# Altium integrated library con-molex-micro-fit-3_0.IntLib: 194 symbols
Pins are listed as number, name and electrical type; pins without a type are passive.

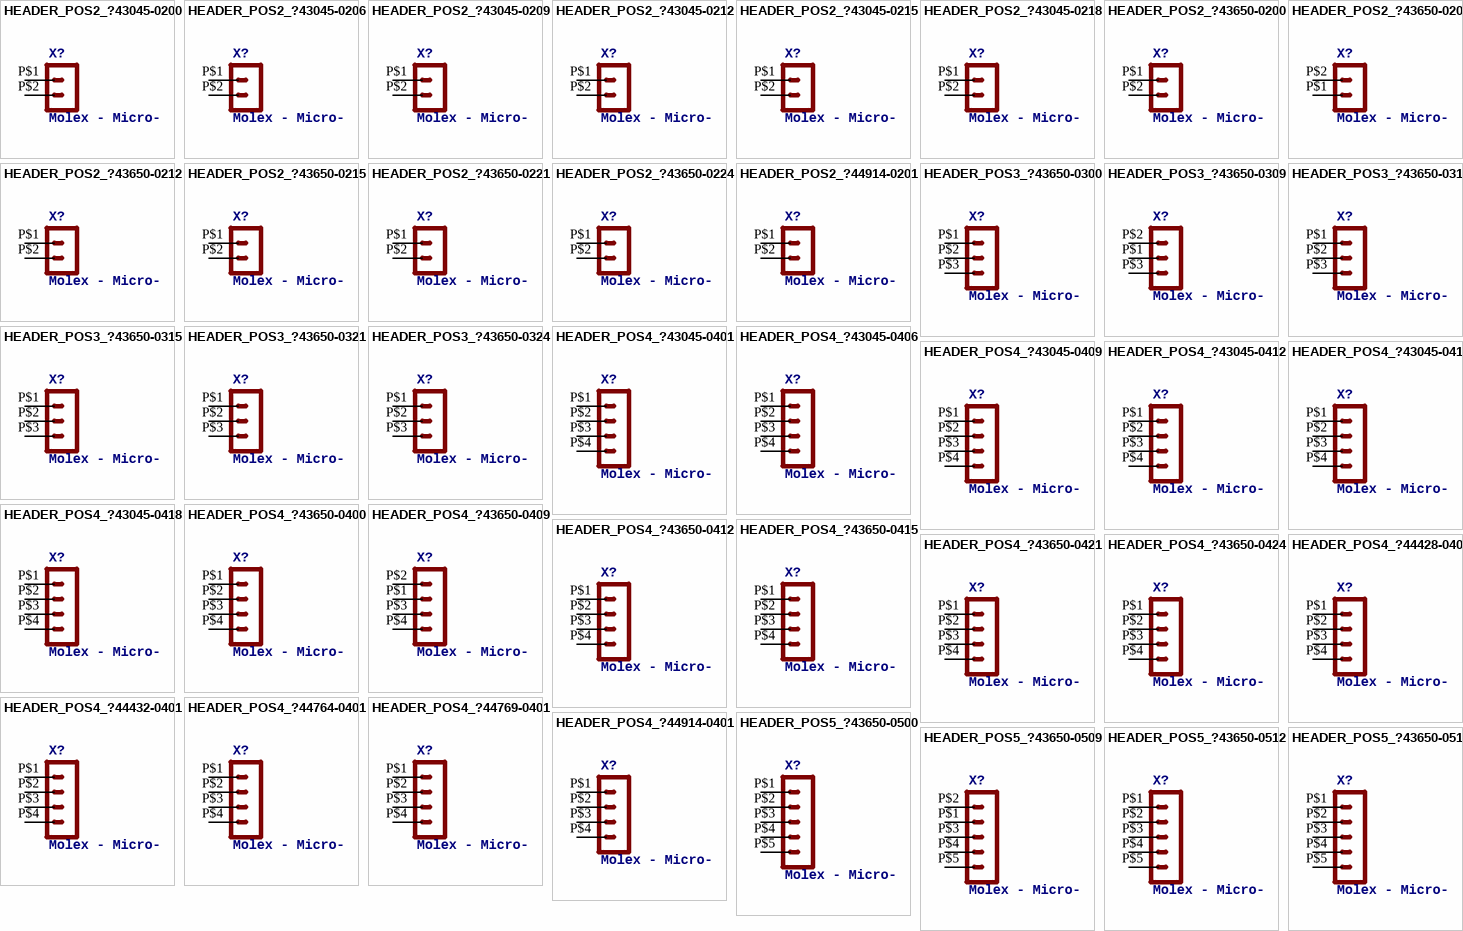
[diagram p0: symbols HEADER_POS2_?43045-0200 to HEADER_POS5_?43650-0515]

## HEADER_POS2_?43045-0200
designator X?, comment Molex - Micro-Fit 3.0 Series connector,  3.00mm (0.118") pitch header, 2 positions.
footprint 43045-0200
pins: P$1 1, P$2 2

## HEADER_POS2_?43045-0206
designator X?, comment Molex - Micro-Fit 3.0 Series connector,  3.00mm (0.118") pitch header, 2 positions.
footprint 43045-0206
pins: P$1 1, P$2 2

## HEADER_POS2_?43045-0209
designator X?, comment Molex - Micro-Fit 3.0 Series connector,  3.00mm (0.118") pitch header, 2 positions.
footprint 43045-0209
pins: P$1 1, P$2 2

## HEADER_POS2_?43045-0212
designator X?, comment Molex - Micro-Fit 3.0 Series connector,  3.00mm (0.118") pitch header, 2 positions.
footprint 43045-0212
pins: P$1 1, P$2 2

## HEADER_POS2_?43045-0215
designator X?, comment Molex - Micro-Fit 3.0 Series connector,  3.00mm (0.118") pitch header, 2 positions.
footprint 43045-0215
pins: P$1 1, P$2 2

## HEADER_POS2_?43045-0218
designator X?, comment Molex - Micro-Fit 3.0 Series connector,  3.00mm (0.118") pitch header, 2 positions.
footprint 43045-0218
pins: P$1 1, P$2 2

## HEADER_POS2_?43650-0200
designator X?, comment Molex - Micro-Fit 3.0 Series connector,  3.00mm (0.118") pitch header, 2 positions.
footprint 43650-0200
pins: P$1 1, P$2 2

## HEADER_POS2_?43650-0209
designator X?, comment Molex - Micro-Fit 3.0 Series connector,  3.00mm (0.118") pitch header, 2 positions.
footprint 43650-0209
pins: P$1 2, P$2 1

## HEADER_POS2_?43650-0212
designator X?, comment Molex - Micro-Fit 3.0 Series connector,  3.00mm (0.118") pitch header, 2 positions.
footprint 43650-0212
pins: P$1 1, P$2 2

## HEADER_POS2_?43650-0215
designator X?, comment Molex - Micro-Fit 3.0 Series connector,  3.00mm (0.118") pitch header, 2 positions.
footprint 43650-0215
pins: P$1 1, P$2 2

## HEADER_POS2_?43650-0221
designator X?, comment Molex - Micro-Fit 3.0 Series connector,  3.00mm (0.118") pitch header, 2 positions.
footprint 43650-0221
pins: P$1 1, P$2 2

## HEADER_POS2_?43650-0224
designator X?, comment Molex - Micro-Fit 3.0 Series connector,  3.00mm (0.118") pitch header, 2 positions.
footprint 43650-0224
pins: P$1 1, P$2 2

## HEADER_POS2_?44914-0201
designator X?, comment Molex - Micro-Fit 3.0 Series connector,  3.00mm (0.118") pitch header, 2 positions.
footprint 44914-0201
pins: P$1 1, P$2 2

## HEADER_POS3_?43650-0300
designator X?, comment Molex - Micro-Fit 3.0 Series connector,  3.00mm (0.118") pitch header, 3 positions.
footprint 43650-0300
pins: P$1 1, P$2 2, P$3 3

## HEADER_POS3_?43650-0309
designator X?, comment Molex - Micro-Fit 3.0 Series connector,  3.00mm (0.118") pitch header, 3 positions.
footprint 43650-0309
pins: P$1 2, P$2 1, P$3 3

## HEADER_POS3_?43650-0312
designator X?, comment Molex - Micro-Fit 3.0 Series connector,  3.00mm (0.118") pitch header, 3 positions.
footprint 43650-0312
pins: P$1 1, P$2 2, P$3 3

## HEADER_POS3_?43650-0315
designator X?, comment Molex - Micro-Fit 3.0 Series connector,  3.00mm (0.118") pitch header, 3 positions.
footprint 43650-0315
pins: P$1 1, P$2 2, P$3 3

## HEADER_POS3_?43650-0321
designator X?, comment Molex - Micro-Fit 3.0 Series connector,  3.00mm (0.118") pitch header, 3 positions.
footprint 43650-0321
pins: P$1 1, P$2 2, P$3 3

## HEADER_POS3_?43650-0324
designator X?, comment Molex - Micro-Fit 3.0 Series connector,  3.00mm (0.118") pitch header, 3 positions.
footprint 43650-0324
pins: P$1 1, P$2 2, P$3 3

## HEADER_POS4_?43045-0401
designator X?, comment Molex - Micro-Fit 3.0 Series connector,  3.00mm (0.118") pitch header, 4 positions.
footprint 43045-0400
pins: P$1 1, P$2 2, P$3 3, P$4 4

## HEADER_POS4_?43045-0406
designator X?, comment Molex - Micro-Fit 3.0 Series connector,  3.00mm (0.118") pitch header, 4 positions.
footprint 43045-0406
pins: P$1 1, P$2 2, P$3 3, P$4 4

## HEADER_POS4_?43045-0409
designator X?, comment Molex - Micro-Fit 3.0 Series connector,  3.00mm (0.118") pitch header, 4 positions.
footprint 43045-0409
pins: P$1 1, P$2 2, P$3 3, P$4 4

## HEADER_POS4_?43045-0412
designator X?, comment Molex - Micro-Fit 3.0 Series connector,  3.00mm (0.118") pitch header, 4 positions.
footprint 43045-0412
pins: P$1 1, P$2 2, P$3 3, P$4 4

## HEADER_POS4_?43045-0415
designator X?, comment Molex - Micro-Fit 3.0 Series connector,  3.00mm (0.118") pitch header, 4 positions.
footprint 43045-0415
pins: P$1 1, P$2 2, P$3 3, P$4 4

## HEADER_POS4_?43045-0418
designator X?, comment Molex - Micro-Fit 3.0 Series connector,  3.00mm (0.118") pitch header, 4 positions.
footprint 43045-0418
pins: P$1 1, P$2 2, P$3 3, P$4 4

## HEADER_POS4_?43650-0400
designator X?, comment Molex - Micro-Fit 3.0 Series connector,  3.00mm (0.118") pitch header, 4 positions.
footprint 43650-0400
pins: P$1 1, P$2 2, P$3 3, P$4 4

## HEADER_POS4_?43650-0409
designator X?, comment Molex - Micro-Fit 3.0 Series connector,  3.00mm (0.118") pitch header, 4 positions.
footprint 43650-0409
pins: P$1 2, P$2 1, P$3 3, P$4 4

## HEADER_POS4_?43650-0412
designator X?, comment Molex - Micro-Fit 3.0 Series connector,  3.00mm (0.118") pitch header, 4 positions.
footprint 43650-0412
pins: P$1 1, P$2 2, P$3 3, P$4 4

## HEADER_POS4_?43650-0415
designator X?, comment Molex - Micro-Fit 3.0 Series connector,  3.00mm (0.118") pitch header, 4 positions.
footprint 43650-0415
pins: P$1 1, P$2 2, P$3 3, P$4 4

## HEADER_POS4_?43650-0421
designator X?, comment Molex - Micro-Fit 3.0 Series connector,  3.00mm (0.118") pitch header, 4 positions.
footprint 43650-0421
pins: P$1 1, P$2 2, P$3 3, P$4 4

## HEADER_POS4_?43650-0424
designator X?, comment Molex - Micro-Fit 3.0 Series connector,  3.00mm (0.118") pitch header, 4 positions.
footprint 43650-0424
pins: P$1 1, P$2 2, P$3 3, P$4 4

## HEADER_POS4_?44428-0401
designator X?, comment Molex - Micro-Fit 3.0 Series connector,  3.00mm (0.118") pitch header, 4 positions.
footprint 44428-0401
pins: P$1 1, P$2 2, P$3 3, P$4 4

## HEADER_POS4_?44432-0401
designator X?, comment Molex - Micro-Fit 3.0 Series connector,  3.00mm (0.118") pitch header, 4 positions.
footprint 44432-0401
pins: P$1 1, P$2 2, P$3 3, P$4 4

## HEADER_POS4_?44764-0401
designator X?, comment Molex - Micro-Fit 3.0 Series connector,  3.00mm (0.118") pitch header, 4 positions.
footprint 44764-0401
pins: P$1 1, P$2 2, P$3 3, P$4 4

## HEADER_POS4_?44769-0401
designator X?, comment Molex - Micro-Fit 3.0 Series connector,  3.00mm (0.118") pitch header, 4 positions.
footprint 44769-0401
pins: P$1 1, P$2 2, P$3 3, P$4 4

## HEADER_POS4_?44914-0401
designator X?, comment Molex - Micro-Fit 3.0 Series connector,  3.00mm (0.118") pitch header, 4 positions.
footprint 44914-0401
pins: P$1 1, P$2 2, P$3 3, P$4 4

## HEADER_POS5_?43650-0500
designator X?, comment Molex - Micro-Fit 3.0 Series connector,  3.00mm (0.118") pitch header, 5 positions.
footprint 43650-0500
pins: P$1 1, P$2 2, P$3 3, P$4 4, P$5 5

## HEADER_POS5_?43650-0509
designator X?, comment Molex - Micro-Fit 3.0 Series connector,  3.00mm (0.118") pitch header, 5 positions.
footprint 43650-0509
pins: P$1 2, P$2 1, P$3 3, P$4 4, P$5 5

## HEADER_POS5_?43650-0512
designator X?, comment Molex - Micro-Fit 3.0 Series connector,  3.00mm (0.118") pitch header, 5 positions.
footprint 43650-0512
pins: P$1 1, P$2 2, P$3 3, P$4 4, P$5 5

## HEADER_POS5_?43650-0515
designator X?, comment Molex - Micro-Fit 3.0 Series connector,  3.00mm (0.118") pitch header, 5 positions.
footprint 43650-0515
pins: P$1 1, P$2 2, P$3 3, P$4 4, P$5 5

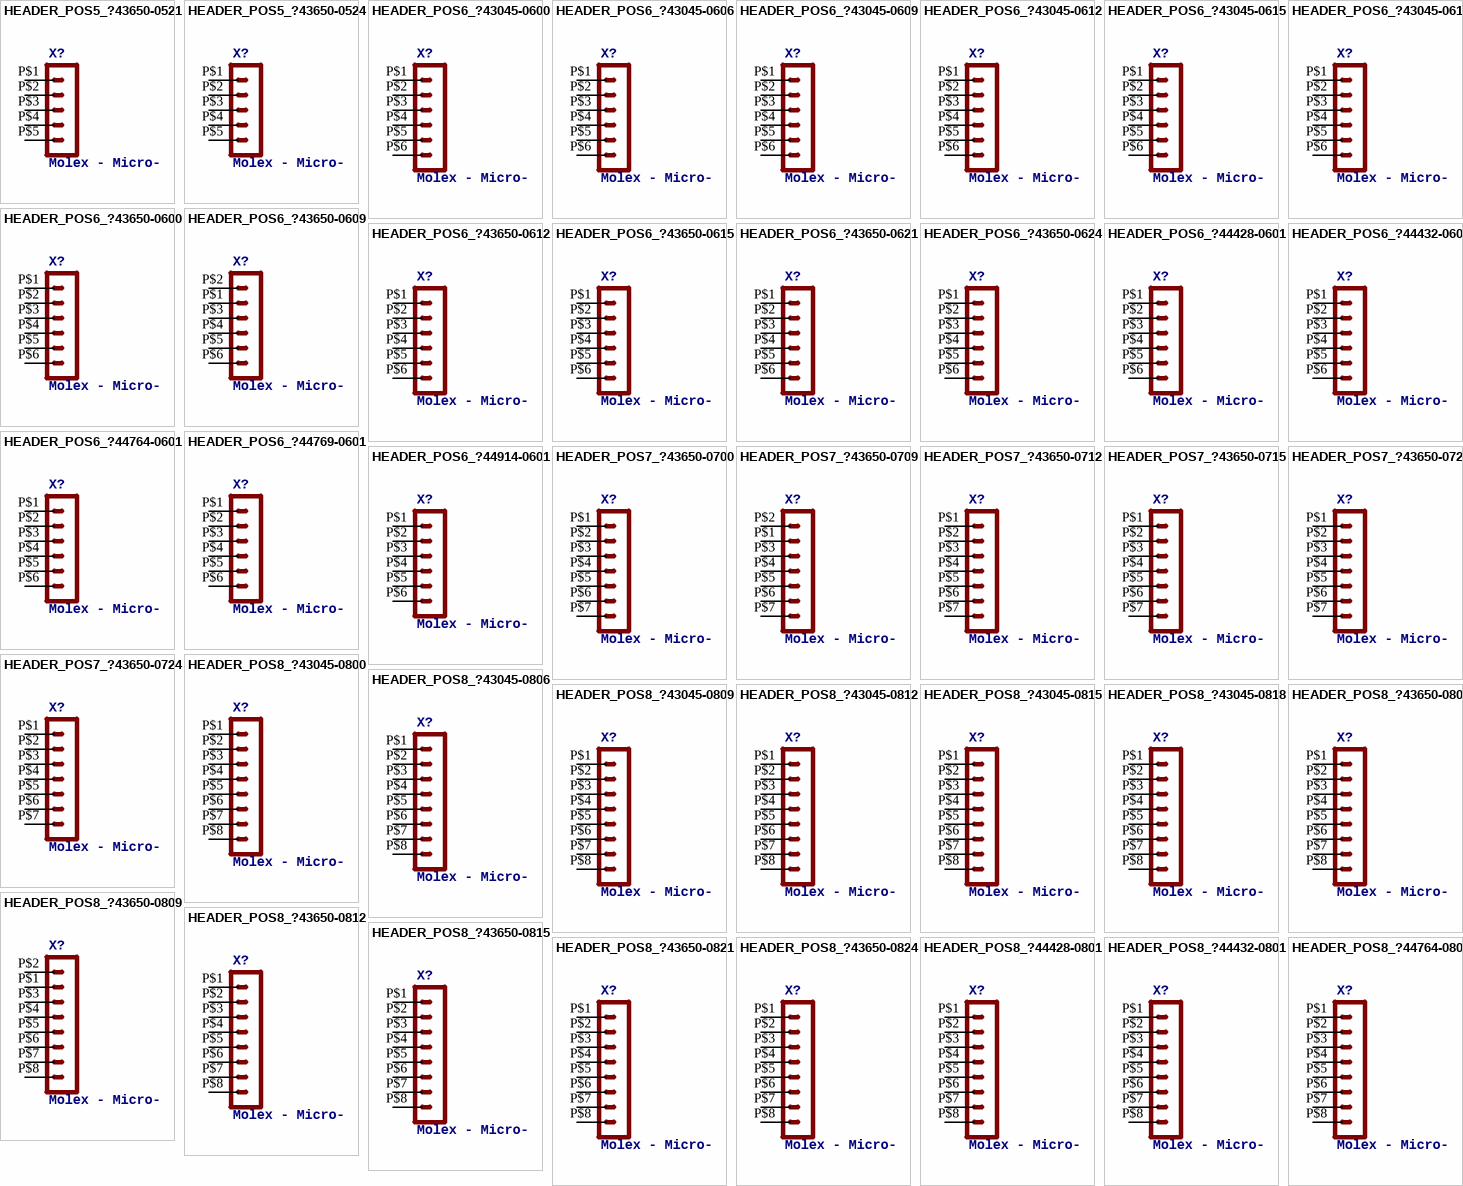
[diagram p1: symbols HEADER_POS5_?43650-0521 to HEADER_POS8_?44764-0801]

## HEADER_POS5_?43650-0521
designator X?, comment Molex - Micro-Fit 3.0 Series connector,  3.00mm (0.118") pitch header, 5 positions.
footprint 43650-0521
pins: P$1 1, P$2 2, P$3 3, P$4 4, P$5 5

## HEADER_POS5_?43650-0524
designator X?, comment Molex - Micro-Fit 3.0 Series connector,  3.00mm (0.118") pitch header, 5 positions.
footprint 43650-0524
pins: P$1 1, P$2 2, P$3 3, P$4 4, P$5 5

## HEADER_POS6_?43045-0600
designator X?, comment Molex - Micro-Fit 3.0 Series connector,  3.00mm (0.118") pitch header, 6 positions.
footprint 43045-0600
pins: P$1 1, P$2 2, P$3 3, P$4 4, P$5 5, P$6 6

## HEADER_POS6_?43045-0606
designator X?, comment Molex - Micro-Fit 3.0 Series connector,  3.00mm (0.118") pitch header, 6 positions.
footprint 43045-0606
pins: P$1 1, P$2 2, P$3 3, P$4 4, P$5 5, P$6 6

## HEADER_POS6_?43045-0609
designator X?, comment Molex - Micro-Fit 3.0 Series connector,  3.00mm (0.118") pitch header, 6 positions.
footprint 43045-0609
pins: P$1 1, P$2 2, P$3 3, P$4 4, P$5 5, P$6 6

## HEADER_POS6_?43045-0612
designator X?, comment Molex - Micro-Fit 3.0 Series connector,  3.00mm (0.118") pitch header, 6 positions.
footprint 43045-0612
pins: P$1 1, P$2 2, P$3 3, P$4 4, P$5 5, P$6 6

## HEADER_POS6_?43045-0615
designator X?, comment Molex - Micro-Fit 3.0 Series connector,  3.00mm (0.118") pitch header, 6 positions.
footprint 43045-0615
pins: P$1 1, P$2 2, P$3 3, P$4 4, P$5 5, P$6 6

## HEADER_POS6_?43045-0618
designator X?, comment Molex - Micro-Fit 3.0 Series connector,  3.00mm (0.118") pitch header, 6 positions.
footprint 43045-0618
pins: P$1 1, P$2 2, P$3 3, P$4 4, P$5 5, P$6 6

## HEADER_POS6_?43650-0600
designator X?, comment Molex - Micro-Fit 3.0 Series connector,  3.00mm (0.118") pitch header, 6 positions.
footprint 43650-0600
pins: P$1 1, P$2 2, P$3 3, P$4 4, P$5 5, P$6 6

## HEADER_POS6_?43650-0609
designator X?, comment Molex - Micro-Fit 3.0 Series connector,  3.00mm (0.118") pitch header, 6 positions.
footprint 43650-0609
pins: P$1 2, P$2 1, P$3 3, P$4 4, P$5 5, P$6 6

## HEADER_POS6_?43650-0612
designator X?, comment Molex - Micro-Fit 3.0 Series connector,  3.00mm (0.118") pitch header, 6 positions.
footprint 43650-0612
pins: P$1 1, P$2 2, P$3 3, P$4 4, P$5 5, P$6 6

## HEADER_POS6_?43650-0615
designator X?, comment Molex - Micro-Fit 3.0 Series connector,  3.00mm (0.118") pitch header, 6 positions.
footprint 43650-0615
pins: P$1 1, P$2 2, P$3 3, P$4 4, P$5 5, P$6 6

## HEADER_POS6_?43650-0621
designator X?, comment Molex - Micro-Fit 3.0 Series connector,  3.00mm (0.118") pitch header, 6 positions.
footprint 43650-0621
pins: P$1 1, P$2 2, P$3 3, P$4 4, P$5 5, P$6 6

## HEADER_POS6_?43650-0624
designator X?, comment Molex - Micro-Fit 3.0 Series connector,  3.00mm (0.118") pitch header, 6 positions.
footprint 43650-0624
pins: P$1 1, P$2 2, P$3 3, P$4 4, P$5 5, P$6 6

## HEADER_POS6_?44428-0601
designator X?, comment Molex - Micro-Fit 3.0 Series connector,  3.00mm (0.118") pitch header, 6 positions.
footprint 44428-0601
pins: P$1 1, P$2 2, P$3 3, P$4 4, P$5 5, P$6 6

## HEADER_POS6_?44432-0601
designator X?, comment Molex - Micro-Fit 3.0 Series connector,  3.00mm (0.118") pitch header, 6 positions.
footprint 44432-0601
pins: P$1 1, P$2 2, P$3 3, P$4 4, P$5 5, P$6 6

## HEADER_POS6_?44764-0601
designator X?, comment Molex - Micro-Fit 3.0 Series connector,  3.00mm (0.118") pitch header, 6 positions.
footprint 44764-0601
pins: P$1 1, P$2 2, P$3 3, P$4 4, P$5 5, P$6 6

## HEADER_POS6_?44769-0601
designator X?, comment Molex - Micro-Fit 3.0 Series connector,  3.00mm (0.118") pitch header, 6 positions.
footprint 44769-0601
pins: P$1 1, P$2 2, P$3 3, P$4 4, P$5 5, P$6 6

## HEADER_POS6_?44914-0601
designator X?, comment Molex - Micro-Fit 3.0 Series connector,  3.00mm (0.118") pitch header, 6 positions.
footprint 44914-0601
pins: P$1 1, P$2 2, P$3 3, P$4 4, P$5 5, P$6 6

## HEADER_POS7_?43650-0700
designator X?, comment Molex - Micro-Fit 3.0 Series connector,  3.00mm (0.118") pitch header, 7 positions.
footprint 43650-0700
pins: P$1 1, P$2 2, P$3 3, P$4 4, P$5 5, P$6 6, P$7 7

## HEADER_POS7_?43650-0709
designator X?, comment Molex - Micro-Fit 3.0 Series connector,  3.00mm (0.118") pitch header, 7 positions.
footprint 43650-0709
pins: P$1 2, P$2 1, P$3 3, P$4 4, P$5 5, P$6 6, P$7 7

## HEADER_POS7_?43650-0712
designator X?, comment Molex - Micro-Fit 3.0 Series connector,  3.00mm (0.118") pitch header, 7 positions.
footprint 43650-0712
pins: P$1 1, P$2 2, P$3 3, P$4 4, P$5 5, P$6 6, P$7 7

## HEADER_POS7_?43650-0715
designator X?, comment Molex - Micro-Fit 3.0 Series connector,  3.00mm (0.118") pitch header, 7 positions.
footprint 43650-0715
pins: P$1 1, P$2 2, P$3 3, P$4 4, P$5 5, P$6 6, P$7 7

## HEADER_POS7_?43650-0721
designator X?, comment Molex - Micro-Fit 3.0 Series connector,  3.00mm (0.118") pitch header, 7 positions.
footprint 43650-0721
pins: P$1 1, P$2 2, P$3 3, P$4 4, P$5 5, P$6 6, P$7 7

## HEADER_POS7_?43650-0724
designator X?, comment Molex - Micro-Fit 3.0 Series connector,  3.00mm (0.118") pitch header, 7 positions.
footprint 43650-0724
pins: P$1 1, P$2 2, P$3 3, P$4 4, P$5 5, P$6 6, P$7 7

## HEADER_POS8_?43045-0800
designator X?, comment Molex - Micro-Fit 3.0 Series connector,  3.00mm (0.118") pitch header, 8 positions.
footprint 43045-0800
pins: P$1 1, P$2 2, P$3 3, P$4 4, P$5 5, P$6 6, P$7 7, P$8 8

## HEADER_POS8_?43045-0806
designator X?, comment Molex - Micro-Fit 3.0 Series connector,  3.00mm (0.118") pitch header, 8 positions.
footprint 43045-0806
pins: P$1 1, P$2 2, P$3 3, P$4 4, P$5 5, P$6 6, P$7 7, P$8 8

## HEADER_POS8_?43045-0809
designator X?, comment Molex - Micro-Fit 3.0 Series connector,  3.00mm (0.118") pitch header, 8 positions.
footprint 43045-0809
pins: P$1 1, P$2 2, P$3 3, P$4 4, P$5 5, P$6 6, P$7 7, P$8 8

## HEADER_POS8_?43045-0812
designator X?, comment Molex - Micro-Fit 3.0 Series connector,  3.00mm (0.118") pitch header, 8 positions.
footprint 43045-0812
pins: P$1 1, P$2 2, P$3 3, P$4 4, P$5 5, P$6 6, P$7 7, P$8 8

## HEADER_POS8_?43045-0815
designator X?, comment Molex - Micro-Fit 3.0 Series connector,  3.00mm (0.118") pitch header, 8 positions.
footprint 43045-0815
pins: P$1 1, P$2 2, P$3 3, P$4 4, P$5 5, P$6 6, P$7 7, P$8 8

## HEADER_POS8_?43045-0818
designator X?, comment Molex - Micro-Fit 3.0 Series connector,  3.00mm (0.118") pitch header, 8 positions.
footprint 43045-0818
pins: P$1 1, P$2 2, P$3 3, P$4 4, P$5 5, P$6 6, P$7 7, P$8 8

## HEADER_POS8_?43650-0800
designator X?, comment Molex - Micro-Fit 3.0 Series connector,  3.00mm (0.118") pitch header, 8 positions.
footprint 43650-0800
pins: P$1 1, P$2 2, P$3 3, P$4 4, P$5 5, P$6 6, P$7 7, P$8 8

## HEADER_POS8_?43650-0809
designator X?, comment Molex - Micro-Fit 3.0 Series connector,  3.00mm (0.118") pitch header, 8 positions.
footprint 43650-0809
pins: P$1 2, P$2 1, P$3 3, P$4 4, P$5 5, P$6 6, P$7 7, P$8 8

## HEADER_POS8_?43650-0812
designator X?, comment Molex - Micro-Fit 3.0 Series connector,  3.00mm (0.118") pitch header, 8 positions.
footprint 43650-0812
pins: P$1 1, P$2 2, P$3 3, P$4 4, P$5 5, P$6 6, P$7 7, P$8 8

## HEADER_POS8_?43650-0815
designator X?, comment Molex - Micro-Fit 3.0 Series connector,  3.00mm (0.118") pitch header, 8 positions.
footprint 43650-0815
pins: P$1 1, P$2 2, P$3 3, P$4 4, P$5 5, P$6 6, P$7 7, P$8 8

## HEADER_POS8_?43650-0821
designator X?, comment Molex - Micro-Fit 3.0 Series connector,  3.00mm (0.118") pitch header, 8 positions.
footprint 43650-0821
pins: P$1 1, P$2 2, P$3 3, P$4 4, P$5 5, P$6 6, P$7 7, P$8 8

## HEADER_POS8_?43650-0824
designator X?, comment Molex - Micro-Fit 3.0 Series connector,  3.00mm (0.118") pitch header, 8 positions.
footprint 43650-0824
pins: P$1 1, P$2 2, P$3 3, P$4 4, P$5 5, P$6 6, P$7 7, P$8 8

## HEADER_POS8_?44428-0801
designator X?, comment Molex - Micro-Fit 3.0 Series connector,  3.00mm (0.118") pitch header, 8 positions.
footprint 44428-0801
pins: P$1 1, P$2 2, P$3 3, P$4 4, P$5 5, P$6 6, P$7 7, P$8 8

## HEADER_POS8_?44432-0801
designator X?, comment Molex - Micro-Fit 3.0 Series connector,  3.00mm (0.118") pitch header, 8 positions.
footprint 44432-0801
pins: P$1 1, P$2 2, P$3 3, P$4 4, P$5 5, P$6 6, P$7 7, P$8 8

## HEADER_POS8_?44764-0801
designator X?, comment Molex - Micro-Fit 3.0 Series connector,  3.00mm (0.118") pitch header, 8 positions.
footprint 44764-0801
pins: P$1 1, P$2 2, P$3 3, P$4 4, P$5 5, P$6 6, P$7 7, P$8 8

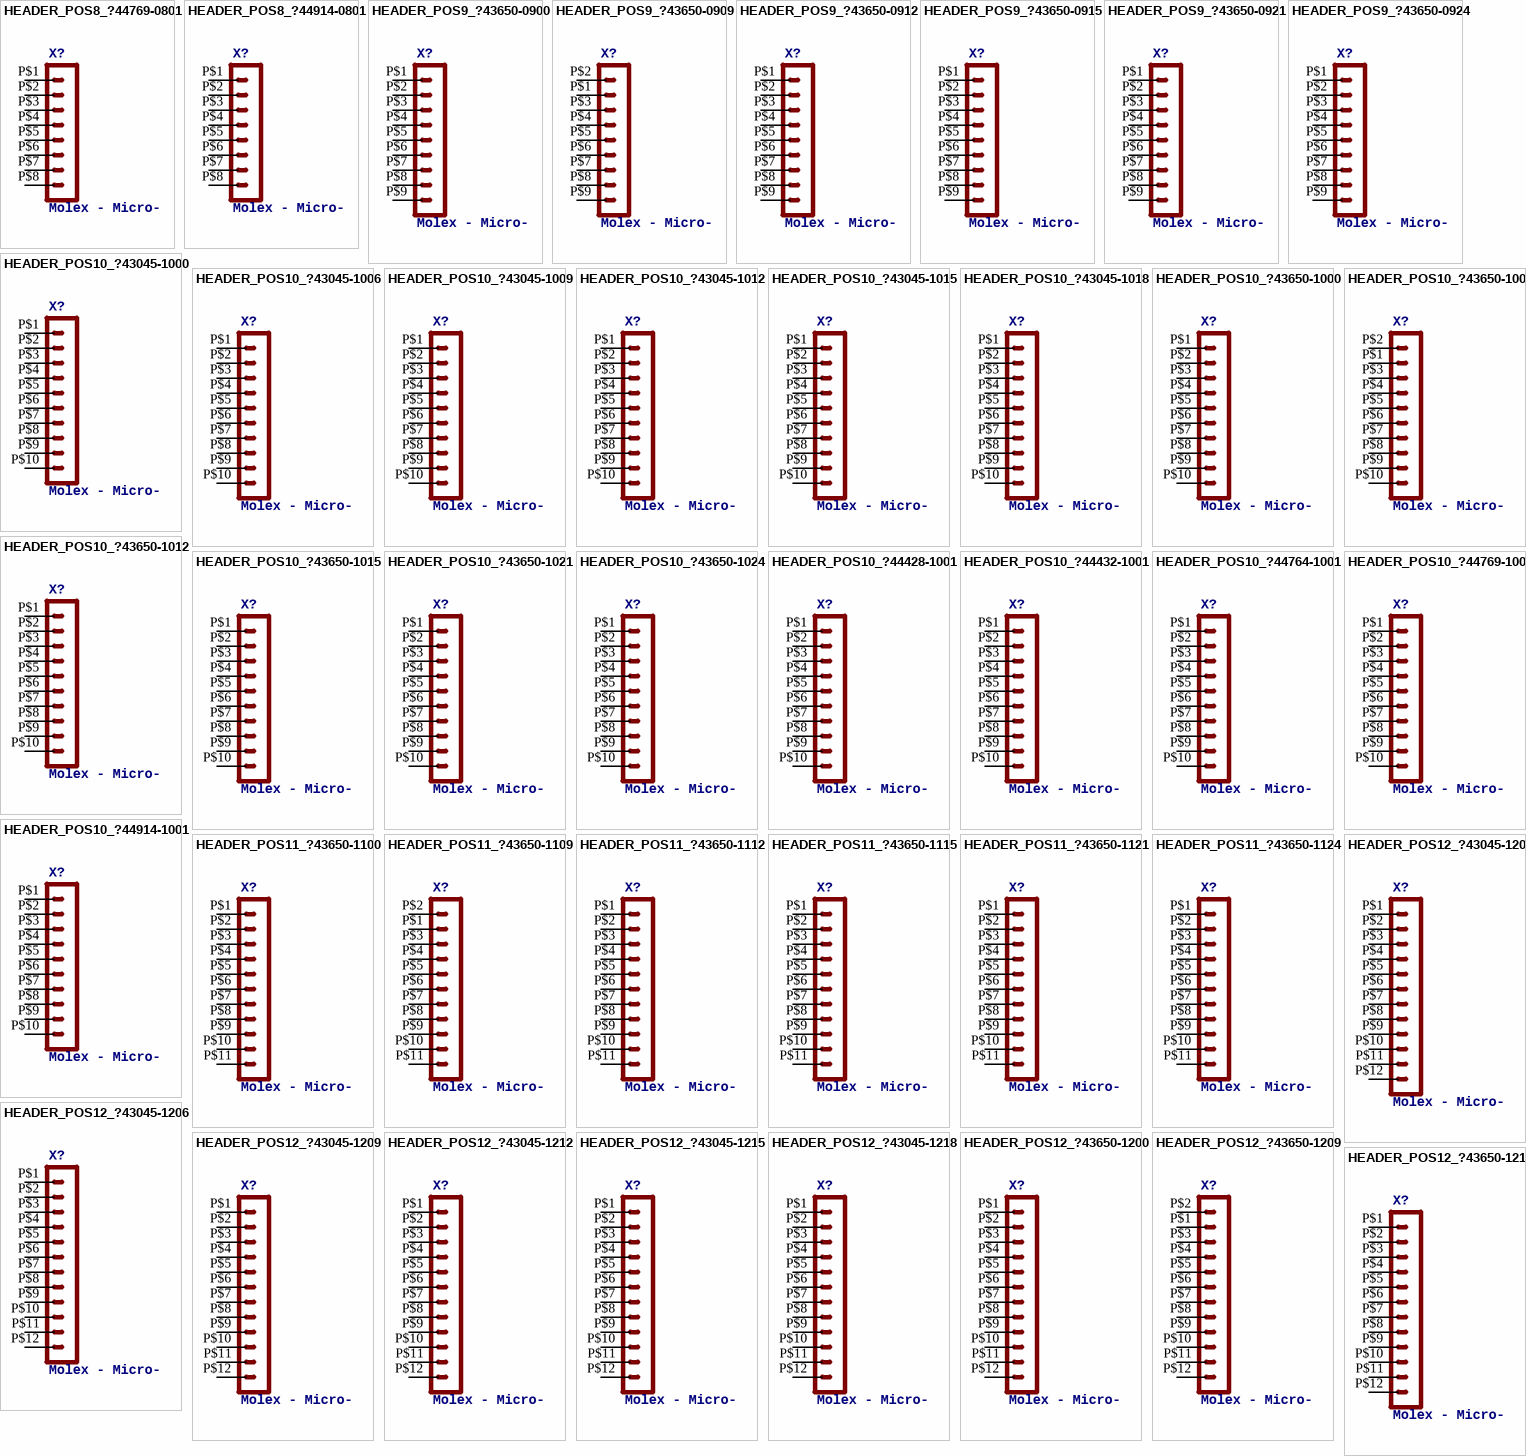
[diagram p2: symbols HEADER_POS8_?44769-0801 to HEADER_POS12_?43650-1212]

## HEADER_POS8_?44769-0801
designator X?, comment Molex - Micro-Fit 3.0 Series connector,  3.00mm (0.118") pitch header, 8 positions.
footprint 44769-0801
pins: P$1 1, P$2 2, P$3 3, P$4 4, P$5 5, P$6 6, P$7 7, P$8 8

## HEADER_POS8_?44914-0801
designator X?, comment Molex - Micro-Fit 3.0 Series connector,  3.00mm (0.118") pitch header, 8 positions.
footprint 44914-0801
pins: P$1 1, P$2 2, P$3 3, P$4 4, P$5 5, P$6 6, P$7 7, P$8 8

## HEADER_POS9_?43650-0900
designator X?, comment Molex - Micro-Fit 3.0 Series connector,  3.00mm (0.118") pitch header, 9 positions.
footprint 43650-0900
pins: P$1 1, P$2 2, P$3 3, P$4 4, P$5 5, P$6 6, P$7 7, P$8 8, P$9 9

## HEADER_POS9_?43650-0909
designator X?, comment Molex - Micro-Fit 3.0 Series connector,  3.00mm (0.118") pitch header, 9 positions.
footprint 43650-0909
pins: P$1 2, P$2 1, P$3 3, P$4 4, P$5 5, P$6 6, P$7 7, P$8 8, P$9 9

## HEADER_POS9_?43650-0912
designator X?, comment Molex - Micro-Fit 3.0 Series connector,  3.00mm (0.118") pitch header, 9 positions.
footprint 43650-0912
pins: P$1 1, P$2 2, P$3 3, P$4 4, P$5 5, P$6 6, P$7 7, P$8 8, P$9 9

## HEADER_POS9_?43650-0915
designator X?, comment Molex - Micro-Fit 3.0 Series connector,  3.00mm (0.118") pitch header, 9 positions.
footprint 43650-0915
pins: P$1 1, P$2 2, P$3 3, P$4 4, P$5 5, P$6 6, P$7 7, P$8 8, P$9 9

## HEADER_POS9_?43650-0921
designator X?, comment Molex - Micro-Fit 3.0 Series connector,  3.00mm (0.118") pitch header, 9 positions.
footprint 43650-0921
pins: P$1 1, P$2 2, P$3 3, P$4 4, P$5 5, P$6 6, P$7 7, P$8 8, P$9 9

## HEADER_POS9_?43650-0924
designator X?, comment Molex - Micro-Fit 3.0 Series connector,  3.00mm (0.118") pitch header, 9 positions.
footprint 43650-0924
pins: P$1 1, P$2 2, P$3 3, P$4 4, P$5 5, P$6 6, P$7 7, P$8 8, P$9 9

## HEADER_POS10_?43045-1000
designator X?, comment Molex - Micro-Fit 3.0 Series connector,  3.00mm (0.118") pitch header, 10 positions.
footprint 43045-1000
pins: P$1 1, P$2 2, P$3 3, P$4 4, P$5 5, P$6 6, P$7 7, P$8 8, P$9 9, P$10 10

## HEADER_POS10_?43045-1006
designator X?, comment Molex - Micro-Fit 3.0 Series connector,  3.00mm (0.118") pitch header, 10 positions.
footprint 43045-1006
pins: P$1 1, P$2 2, P$3 3, P$4 4, P$5 5, P$6 6, P$7 7, P$8 8, P$9 9, P$10 10

## HEADER_POS10_?43045-1009
designator X?, comment Molex - Micro-Fit 3.0 Series connector,  3.00mm (0.118") pitch header, 10 positions.
footprint 43045-1009
pins: P$1 1, P$2 2, P$3 3, P$4 4, P$5 5, P$6 6, P$7 7, P$8 8, P$9 9, P$10 10

## HEADER_POS10_?43045-1012
designator X?, comment Molex - Micro-Fit 3.0 Series connector,  3.00mm (0.118") pitch header, 10 positions.
footprint 43045-1012
pins: P$1 1, P$2 2, P$3 3, P$4 4, P$5 5, P$6 6, P$7 7, P$8 8, P$9 9, P$10 10

## HEADER_POS10_?43045-1015
designator X?, comment Molex - Micro-Fit 3.0 Series connector,  3.00mm (0.118") pitch header, 10 positions.
footprint 43045-1015
pins: P$1 1, P$2 2, P$3 3, P$4 4, P$5 5, P$6 6, P$7 7, P$8 8, P$9 9, P$10 10

## HEADER_POS10_?43045-1018
designator X?, comment Molex - Micro-Fit 3.0 Series connector,  3.00mm (0.118") pitch header, 10 positions.
footprint 43045-1018
pins: P$1 1, P$2 2, P$3 3, P$4 4, P$5 5, P$6 6, P$7 7, P$8 8, P$9 9, P$10 10

## HEADER_POS10_?43650-1000
designator X?, comment Molex - Micro-Fit 3.0 Series connector,  3.00mm (0.118") pitch header, 10 positions.
footprint 43650-1000
pins: P$1 1, P$2 2, P$3 3, P$4 4, P$5 5, P$6 6, P$7 7, P$8 8, P$9 9, P$10 10

## HEADER_POS10_?43650-1009
designator X?, comment Molex - Micro-Fit 3.0 Series connector,  3.00mm (0.118") pitch header, 10 positions.
footprint 43650-1009
pins: P$1 2, P$2 1, P$3 3, P$4 4, P$5 5, P$6 6, P$7 7, P$8 8, P$9 9, P$10 10

## HEADER_POS10_?43650-1012
designator X?, comment Molex - Micro-Fit 3.0 Series connector,  3.00mm (0.118") pitch header, 10 positions.
footprint 43650-1012
pins: P$1 1, P$2 2, P$3 3, P$4 4, P$5 5, P$6 6, P$7 7, P$8 8, P$9 9, P$10 10

## HEADER_POS10_?43650-1015
designator X?, comment Molex - Micro-Fit 3.0 Series connector,  3.00mm (0.118") pitch header, 10 positions.
footprint 43650-1015
pins: P$1 1, P$2 2, P$3 3, P$4 4, P$5 5, P$6 6, P$7 7, P$8 8, P$9 9, P$10 10

## HEADER_POS10_?43650-1021
designator X?, comment Molex - Micro-Fit 3.0 Series connector,  3.00mm (0.118") pitch header, 10 positions.
footprint 43650-1021
pins: P$1 1, P$2 2, P$3 3, P$4 4, P$5 5, P$6 6, P$7 7, P$8 8, P$9 9, P$10 10

## HEADER_POS10_?43650-1024
designator X?, comment Molex - Micro-Fit 3.0 Series connector,  3.00mm (0.118") pitch header, 10 positions.
footprint 43650-1024
pins: P$1 1, P$2 2, P$3 3, P$4 4, P$5 5, P$6 6, P$7 7, P$8 8, P$9 9, P$10 10

## HEADER_POS10_?44428-1001
designator X?, comment Molex - Micro-Fit 3.0 Series connector,  3.00mm (0.118") pitch header, 10 positions.
footprint 44428-1001
pins: P$1 1, P$2 2, P$3 3, P$4 4, P$5 5, P$6 6, P$7 7, P$8 8, P$9 9, P$10 10

## HEADER_POS10_?44432-1001
designator X?, comment Molex - Micro-Fit 3.0 Series connector,  3.00mm (0.118") pitch header, 10 positions.
footprint 44432-1001
pins: P$1 1, P$2 2, P$3 3, P$4 4, P$5 5, P$6 6, P$7 7, P$8 8, P$9 9, P$10 10

## HEADER_POS10_?44764-1001
designator X?, comment Molex - Micro-Fit 3.0 Series connector,  3.00mm (0.118") pitch header, 10 positions.
footprint 44764-1001
pins: P$1 1, P$2 2, P$3 3, P$4 4, P$5 5, P$6 6, P$7 7, P$8 8, P$9 9, P$10 10

## HEADER_POS10_?44769-1001
designator X?, comment Molex - Micro-Fit 3.0 Series connector,  3.00mm (0.118") pitch header, 10 positions.
footprint 44769-1001
pins: P$1 1, P$2 2, P$3 3, P$4 4, P$5 5, P$6 6, P$7 7, P$8 8, P$9 9, P$10 10

## HEADER_POS10_?44914-1001
designator X?, comment Molex - Micro-Fit 3.0 Series connector,  3.00mm (0.118") pitch header, 10 positions.
footprint 44914-1001
pins: P$1 1, P$2 2, P$3 3, P$4 4, P$5 5, P$6 6, P$7 7, P$8 8, P$9 9, P$10 10

## HEADER_POS11_?43650-1100
designator X?, comment Molex - Micro-Fit 3.0 Series connector,  3.00mm (0.118") pitch header, 11 positions.
footprint 43650-1100
pins: P$1 1, P$2 2, P$3 3, P$4 4, P$5 5, P$6 6, P$7 7, P$8 8, P$9 9, P$10 10, P$11 11

## HEADER_POS11_?43650-1109
designator X?, comment Molex - Micro-Fit 3.0 Series connector,  3.00mm (0.118") pitch header, 11 positions.
footprint 43650-1109
pins: P$1 2, P$2 1, P$3 3, P$4 4, P$5 5, P$6 6, P$7 7, P$8 8, P$9 9, P$10 10, P$11 11

## HEADER_POS11_?43650-1112
designator X?, comment Molex - Micro-Fit 3.0 Series connector,  3.00mm (0.118") pitch header, 11 positions.
footprint 43650-1112
pins: P$1 1, P$2 2, P$3 3, P$4 4, P$5 5, P$6 6, P$7 7, P$8 8, P$9 9, P$10 10, P$11 11

## HEADER_POS11_?43650-1115
designator X?, comment Molex - Micro-Fit 3.0 Series connector,  3.00mm (0.118") pitch header, 11 positions.
footprint 43650-1115
pins: P$1 1, P$2 2, P$3 3, P$4 4, P$5 5, P$6 6, P$7 7, P$8 8, P$9 9, P$10 10, P$11 11

## HEADER_POS11_?43650-1121
designator X?, comment Molex - Micro-Fit 3.0 Series connector,  3.00mm (0.118") pitch header, 11 positions.
footprint 43650-1121
pins: P$1 1, P$2 2, P$3 3, P$4 4, P$5 5, P$6 6, P$7 7, P$8 8, P$9 9, P$10 10, P$11 11

## HEADER_POS11_?43650-1124
designator X?, comment Molex - Micro-Fit 3.0 Series connector,  3.00mm (0.118") pitch header, 11 positions.
footprint 43650-1124
pins: P$1 1, P$2 2, P$3 3, P$4 4, P$5 5, P$6 6, P$7 7, P$8 8, P$9 9, P$10 10, P$11 11

## HEADER_POS12_?43045-1200
designator X?, comment Molex - Micro-Fit 3.0 Series connector,  3.00mm (0.118") pitch header, 12 positions.
footprint 43045-1200
pins: P$1 1, P$2 2, P$3 3, P$4 4, P$5 5, P$6 6, P$7 7, P$8 8, P$9 9, P$10 10, P$11 11, P$12 12

## HEADER_POS12_?43045-1206
designator X?, comment Molex - Micro-Fit 3.0 Series connector,  3.00mm (0.118") pitch header, 12 positions.
footprint 43045-1206
pins: P$1 1, P$2 2, P$3 3, P$4 4, P$5 5, P$6 6, P$7 7, P$8 8, P$9 9, P$10 10, P$11 11, P$12 12

## HEADER_POS12_?43045-1209
designator X?, comment Molex - Micro-Fit 3.0 Series connector,  3.00mm (0.118") pitch header, 12 positions.
footprint 43045-1209
pins: P$1 1, P$2 2, P$3 3, P$4 4, P$5 5, P$6 6, P$7 7, P$8 8, P$9 9, P$10 10, P$11 11, P$12 12

## HEADER_POS12_?43045-1212
designator X?, comment Molex - Micro-Fit 3.0 Series connector,  3.00mm (0.118") pitch header, 12 positions.
footprint 43045-1212
pins: P$1 1, P$2 2, P$3 3, P$4 4, P$5 5, P$6 6, P$7 7, P$8 8, P$9 9, P$10 10, P$11 11, P$12 12

## HEADER_POS12_?43045-1215
designator X?, comment Molex - Micro-Fit 3.0 Series connector,  3.00mm (0.118") pitch header, 12 positions.
footprint 43045-1215
pins: P$1 1, P$2 2, P$3 3, P$4 4, P$5 5, P$6 6, P$7 7, P$8 8, P$9 9, P$10 10, P$11 11, P$12 12

## HEADER_POS12_?43045-1218
designator X?, comment Molex - Micro-Fit 3.0 Series connector,  3.00mm (0.118") pitch header, 12 positions.
footprint 43045-1218
pins: P$1 1, P$2 2, P$3 3, P$4 4, P$5 5, P$6 6, P$7 7, P$8 8, P$9 9, P$10 10, P$11 11, P$12 12

## HEADER_POS12_?43650-1200
designator X?, comment Molex - Micro-Fit 3.0 Series connector,  3.00mm (0.118") pitch header, 12 positions.
footprint 43650-1200
pins: P$1 1, P$2 2, P$3 3, P$4 4, P$5 5, P$6 6, P$7 7, P$8 8, P$9 9, P$10 10, P$11 11, P$12 12

## HEADER_POS12_?43650-1209
designator X?, comment Molex - Micro-Fit 3.0 Series connector,  3.00mm (0.118") pitch header, 12 positions.
footprint 43650-1209
pins: P$1 2, P$2 1, P$3 3, P$4 4, P$5 5, P$6 6, P$7 7, P$8 8, P$9 9, P$10 10, P$11 11, P$12 12

## HEADER_POS12_?43650-1212
designator X?, comment Molex - Micro-Fit 3.0 Series connector,  3.00mm (0.118") pitch header, 12 positions.
footprint 43650-1212
pins: P$1 1, P$2 2, P$3 3, P$4 4, P$5 5, P$6 6, P$7 7, P$8 8, P$9 9, P$10 10, P$11 11, P$12 12

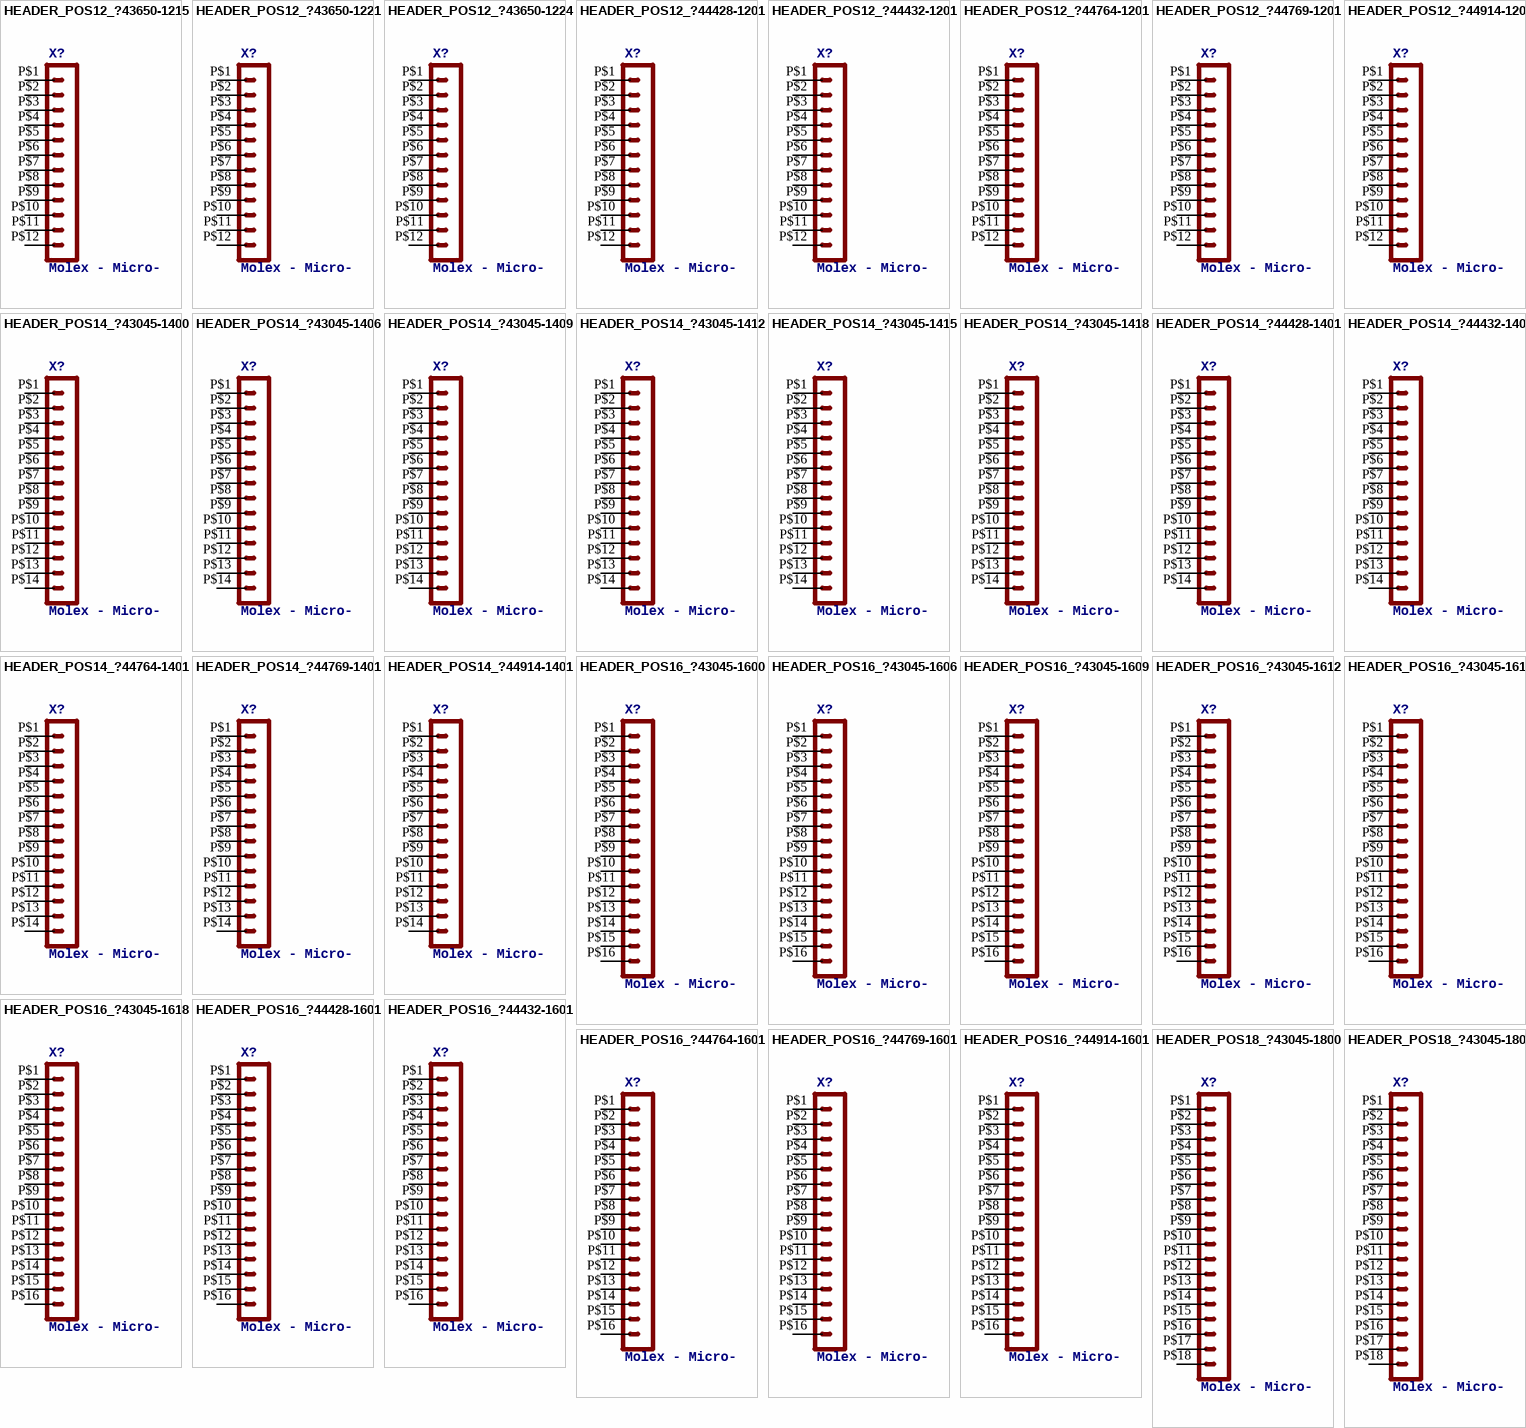
[diagram p3: symbols HEADER_POS12_?43650-1215 to HEADER_POS18_?43045-1806]

## HEADER_POS12_?43650-1215
designator X?, comment Molex - Micro-Fit 3.0 Series connector,  3.00mm (0.118") pitch header, 12 positions.
footprint 43650-1215
pins: P$1 1, P$2 2, P$3 3, P$4 4, P$5 5, P$6 6, P$7 7, P$8 8, P$9 9, P$10 10, P$11 11, P$12 12

## HEADER_POS12_?43650-1221
designator X?, comment Molex - Micro-Fit 3.0 Series connector,  3.00mm (0.118") pitch header, 12 positions.
footprint 43650-1221
pins: P$1 1, P$2 2, P$3 3, P$4 4, P$5 5, P$6 6, P$7 7, P$8 8, P$9 9, P$10 10, P$11 11, P$12 12

## HEADER_POS12_?43650-1224
designator X?, comment Molex - Micro-Fit 3.0 Series connector,  3.00mm (0.118") pitch header, 12 positions.
footprint 43650-1224
pins: P$1 1, P$2 2, P$3 3, P$4 4, P$5 5, P$6 6, P$7 7, P$8 8, P$9 9, P$10 10, P$11 11, P$12 12

## HEADER_POS12_?44428-1201
designator X?, comment Molex - Micro-Fit 3.0 Series connector,  3.00mm (0.118") pitch header, 12 positions.
footprint 44428-1201
pins: P$1 1, P$2 2, P$3 3, P$4 4, P$5 5, P$6 6, P$7 7, P$8 8, P$9 9, P$10 10, P$11 11, P$12 12

## HEADER_POS12_?44432-1201
designator X?, comment Molex - Micro-Fit 3.0 Series connector,  3.00mm (0.118") pitch header, 12 positions.
footprint 44432-1201
pins: P$1 1, P$2 2, P$3 3, P$4 4, P$5 5, P$6 6, P$7 7, P$8 8, P$9 9, P$10 10, P$11 11, P$12 12

## HEADER_POS12_?44764-1201
designator X?, comment Molex - Micro-Fit 3.0 Series connector,  3.00mm (0.118") pitch header, 12 positions.
footprint 44764-1201
pins: P$1 1, P$2 2, P$3 3, P$4 4, P$5 5, P$6 6, P$7 7, P$8 8, P$9 9, P$10 10, P$11 11, P$12 12

## HEADER_POS12_?44769-1201
designator X?, comment Molex - Micro-Fit 3.0 Series connector,  3.00mm (0.118") pitch header, 12 positions.
footprint 44769-1201
pins: P$1 1, P$2 2, P$3 3, P$4 4, P$5 5, P$6 6, P$7 7, P$8 8, P$9 9, P$10 10, P$11 11, P$12 12

## HEADER_POS12_?44914-1201
designator X?, comment Molex - Micro-Fit 3.0 Series connector,  3.00mm (0.118") pitch header, 12 positions.
footprint 44914-1201
pins: P$1 1, P$2 2, P$3 3, P$4 4, P$5 5, P$6 6, P$7 7, P$8 8, P$9 9, P$10 10, P$11 11, P$12 12

## HEADER_POS14_?43045-1400
designator X?, comment Molex - Micro-Fit 3.0 Series connector,  3.00mm (0.118") pitch header, 14 positions.
footprint 43045-1400
pins: P$1 1, P$2 2, P$3 3, P$4 4, P$5 5, P$6 6, P$7 7, P$8 8, P$9 9, P$10 10, P$11 11, P$12 12, P$13 13, P$14 14

## HEADER_POS14_?43045-1406
designator X?, comment Molex - Micro-Fit 3.0 Series connector,  3.00mm (0.118") pitch header, 14 positions.
footprint 43045-1406
pins: P$1 1, P$2 2, P$3 3, P$4 4, P$5 5, P$6 6, P$7 7, P$8 8, P$9 9, P$10 10, P$11 11, P$12 12, P$13 13, P$14 14

## HEADER_POS14_?43045-1409
designator X?, comment Molex - Micro-Fit 3.0 Series connector,  3.00mm (0.118") pitch header, 14 positions.
footprint 43045-1409
pins: P$1 1, P$2 2, P$3 3, P$4 4, P$5 5, P$6 6, P$7 7, P$8 8, P$9 9, P$10 10, P$11 11, P$12 12, P$13 13, P$14 14

## HEADER_POS14_?43045-1412
designator X?, comment Molex - Micro-Fit 3.0 Series connector,  3.00mm (0.118") pitch header, 14 positions.
footprint 43045-1412
pins: P$1 1, P$2 2, P$3 3, P$4 4, P$5 5, P$6 6, P$7 7, P$8 8, P$9 9, P$10 10, P$11 11, P$12 12, P$13 13, P$14 14

## HEADER_POS14_?43045-1415
designator X?, comment Molex - Micro-Fit 3.0 Series connector,  3.00mm (0.118") pitch header, 14 positions.
footprint 43045-1415
pins: P$1 1, P$2 2, P$3 3, P$4 4, P$5 5, P$6 6, P$7 7, P$8 8, P$9 9, P$10 10, P$11 11, P$12 12, P$13 13, P$14 14

## HEADER_POS14_?43045-1418
designator X?, comment Molex - Micro-Fit 3.0 Series connector,  3.00mm (0.118") pitch header, 14 positions.
footprint 43045-1418
pins: P$1 1, P$2 2, P$3 3, P$4 4, P$5 5, P$6 6, P$7 7, P$8 8, P$9 9, P$10 10, P$11 11, P$12 12, P$13 13, P$14 14

## HEADER_POS14_?44428-1401
designator X?, comment Molex - Micro-Fit 3.0 Series connector,  3.00mm (0.118") pitch header, 14 positions.
footprint 44428-1401
pins: P$1 1, P$2 2, P$3 3, P$4 4, P$5 5, P$6 6, P$7 7, P$8 8, P$9 9, P$10 10, P$11 11, P$12 12, P$13 13, P$14 14

## HEADER_POS14_?44432-1401
designator X?, comment Molex - Micro-Fit 3.0 Series connector,  3.00mm (0.118") pitch header, 14 positions.
footprint 44432-1401
pins: P$1 1, P$2 2, P$3 3, P$4 4, P$5 5, P$6 6, P$7 7, P$8 8, P$9 9, P$10 10, P$11 11, P$12 12, P$13 13, P$14 14

## HEADER_POS14_?44764-1401
designator X?, comment Molex - Micro-Fit 3.0 Series connector,  3.00mm (0.118") pitch header, 14 positions.
footprint 44764-1401
pins: P$1 1, P$2 2, P$3 3, P$4 4, P$5 5, P$6 6, P$7 7, P$8 8, P$9 9, P$10 10, P$11 11, P$12 12, P$13 13, P$14 14

## HEADER_POS14_?44769-1401
designator X?, comment Molex - Micro-Fit 3.0 Series connector,  3.00mm (0.118") pitch header, 14 positions.
footprint 44769-1401
pins: P$1 1, P$2 2, P$3 3, P$4 4, P$5 5, P$6 6, P$7 7, P$8 8, P$9 9, P$10 10, P$11 11, P$12 12, P$13 13, P$14 14

## HEADER_POS14_?44914-1401
designator X?, comment Molex - Micro-Fit 3.0 Series connector,  3.00mm (0.118") pitch header, 14 positions.
footprint 44914-1401
pins: P$1 1, P$2 2, P$3 3, P$4 4, P$5 5, P$6 6, P$7 7, P$8 8, P$9 9, P$10 10, P$11 11, P$12 12, P$13 13, P$14 14

## HEADER_POS16_?43045-1600
designator X?, comment Molex - Micro-Fit 3.0 Series connector,  3.00mm (0.118") pitch header, 16 positions.
footprint 43045-1600
pins: P$1 1, P$2 2, P$3 3, P$4 4, P$5 5, P$6 6, P$7 7, P$8 8, P$9 9, P$10 10, P$11 11, P$12 12, P$13 13, P$14 14, P$15 15, P$16 16

## HEADER_POS16_?43045-1606
designator X?, comment Molex - Micro-Fit 3.0 Series connector,  3.00mm (0.118") pitch header, 16 positions.
footprint 43045-1606
pins: P$1 1, P$2 2, P$3 3, P$4 4, P$5 5, P$6 6, P$7 7, P$8 8, P$9 9, P$10 10, P$11 11, P$12 12, P$13 13, P$14 14, P$15 15, P$16 16

## HEADER_POS16_?43045-1609
designator X?, comment Molex - Micro-Fit 3.0 Series connector,  3.00mm (0.118") pitch header, 16 positions.
footprint 43045-1609
pins: P$1 1, P$2 2, P$3 3, P$4 4, P$5 5, P$6 6, P$7 7, P$8 8, P$9 9, P$10 10, P$11 11, P$12 12, P$13 13, P$14 14, P$15 15, P$16 16

## HEADER_POS16_?43045-1612
designator X?, comment Molex - Micro-Fit 3.0 Series connector,  3.00mm (0.118") pitch header, 16 positions.
footprint 43045-1612
pins: P$1 1, P$2 2, P$3 3, P$4 4, P$5 5, P$6 6, P$7 7, P$8 8, P$9 9, P$10 10, P$11 11, P$12 12, P$13 13, P$14 14, P$15 15, P$16 16

## HEADER_POS16_?43045-1615
designator X?, comment Molex - Micro-Fit 3.0 Series connector,  3.00mm (0.118") pitch header, 16 positions.
footprint 43045-1615
pins: P$1 1, P$2 2, P$3 3, P$4 4, P$5 5, P$6 6, P$7 7, P$8 8, P$9 9, P$10 10, P$11 11, P$12 12, P$13 13, P$14 14, P$15 15, P$16 16

## HEADER_POS16_?43045-1618
designator X?, comment Molex - Micro-Fit 3.0 Series connector,  3.00mm (0.118") pitch header, 16 positions.
footprint 43045-1618
pins: P$1 1, P$2 2, P$3 3, P$4 4, P$5 5, P$6 6, P$7 7, P$8 8, P$9 9, P$10 10, P$11 11, P$12 12, P$13 13, P$14 14, P$15 15, P$16 16

## HEADER_POS16_?44428-1601
designator X?, comment Molex - Micro-Fit 3.0 Series connector,  3.00mm (0.118") pitch header, 16 positions.
footprint 44428-1601
pins: P$1 1, P$2 2, P$3 3, P$4 4, P$5 5, P$6 6, P$7 7, P$8 8, P$9 9, P$10 10, P$11 11, P$12 12, P$13 13, P$14 14, P$15 15, P$16 16

## HEADER_POS16_?44432-1601
designator X?, comment Molex - Micro-Fit 3.0 Series connector,  3.00mm (0.118") pitch header, 16 positions.
footprint 44432-1601
pins: P$1 1, P$2 2, P$3 3, P$4 4, P$5 5, P$6 6, P$7 7, P$8 8, P$9 9, P$10 10, P$11 11, P$12 12, P$13 13, P$14 14, P$15 15, P$16 16

## HEADER_POS16_?44764-1601
designator X?, comment Molex - Micro-Fit 3.0 Series connector,  3.00mm (0.118") pitch header, 16 positions.
footprint 44764-1601
pins: P$1 1, P$2 2, P$3 3, P$4 4, P$5 5, P$6 6, P$7 7, P$8 8, P$9 9, P$10 10, P$11 11, P$12 12, P$13 13, P$14 14, P$15 15, P$16 16

## HEADER_POS16_?44769-1601
designator X?, comment Molex - Micro-Fit 3.0 Series connector,  3.00mm (0.118") pitch header, 16 positions.
footprint 44769-1601
pins: P$1 1, P$2 2, P$3 3, P$4 4, P$5 5, P$6 6, P$7 7, P$8 8, P$9 9, P$10 10, P$11 11, P$12 12, P$13 13, P$14 14, P$15 15, P$16 16

## HEADER_POS16_?44914-1601
designator X?, comment Molex - Micro-Fit 3.0 Series connector,  3.00mm (0.118") pitch header, 16 positions.
footprint 44914-1601
pins: P$1 1, P$2 2, P$3 3, P$4 4, P$5 5, P$6 6, P$7 7, P$8 8, P$9 9, P$10 10, P$11 11, P$12 12, P$13 13, P$14 14, P$15 15, P$16 16

## HEADER_POS18_?43045-1800
designator X?, comment Molex - Micro-Fit 3.0 Series connector,  3.00mm (0.118") pitch header, 18 positions.
footprint 43045-1800
pins: P$1 1, P$2 2, P$3 3, P$4 4, P$5 5, P$6 6, P$7 7, P$8 8, P$9 9, P$10 10, P$11 11, P$12 12, P$13 13, P$14 14, P$15 15, P$16 16, P$17 17, P$18 18

## HEADER_POS18_?43045-1806
designator X?, comment Molex - Micro-Fit 3.0 Series connector,  3.00mm (0.118") pitch header, 18 positions.
footprint 43045-1806
pins: P$1 1, P$2 2, P$3 3, P$4 4, P$5 5, P$6 6, P$7 7, P$8 8, P$9 9, P$10 10, P$11 11, P$12 12, P$13 13, P$14 14, P$15 15, P$16 16, P$17 17, P$18 18

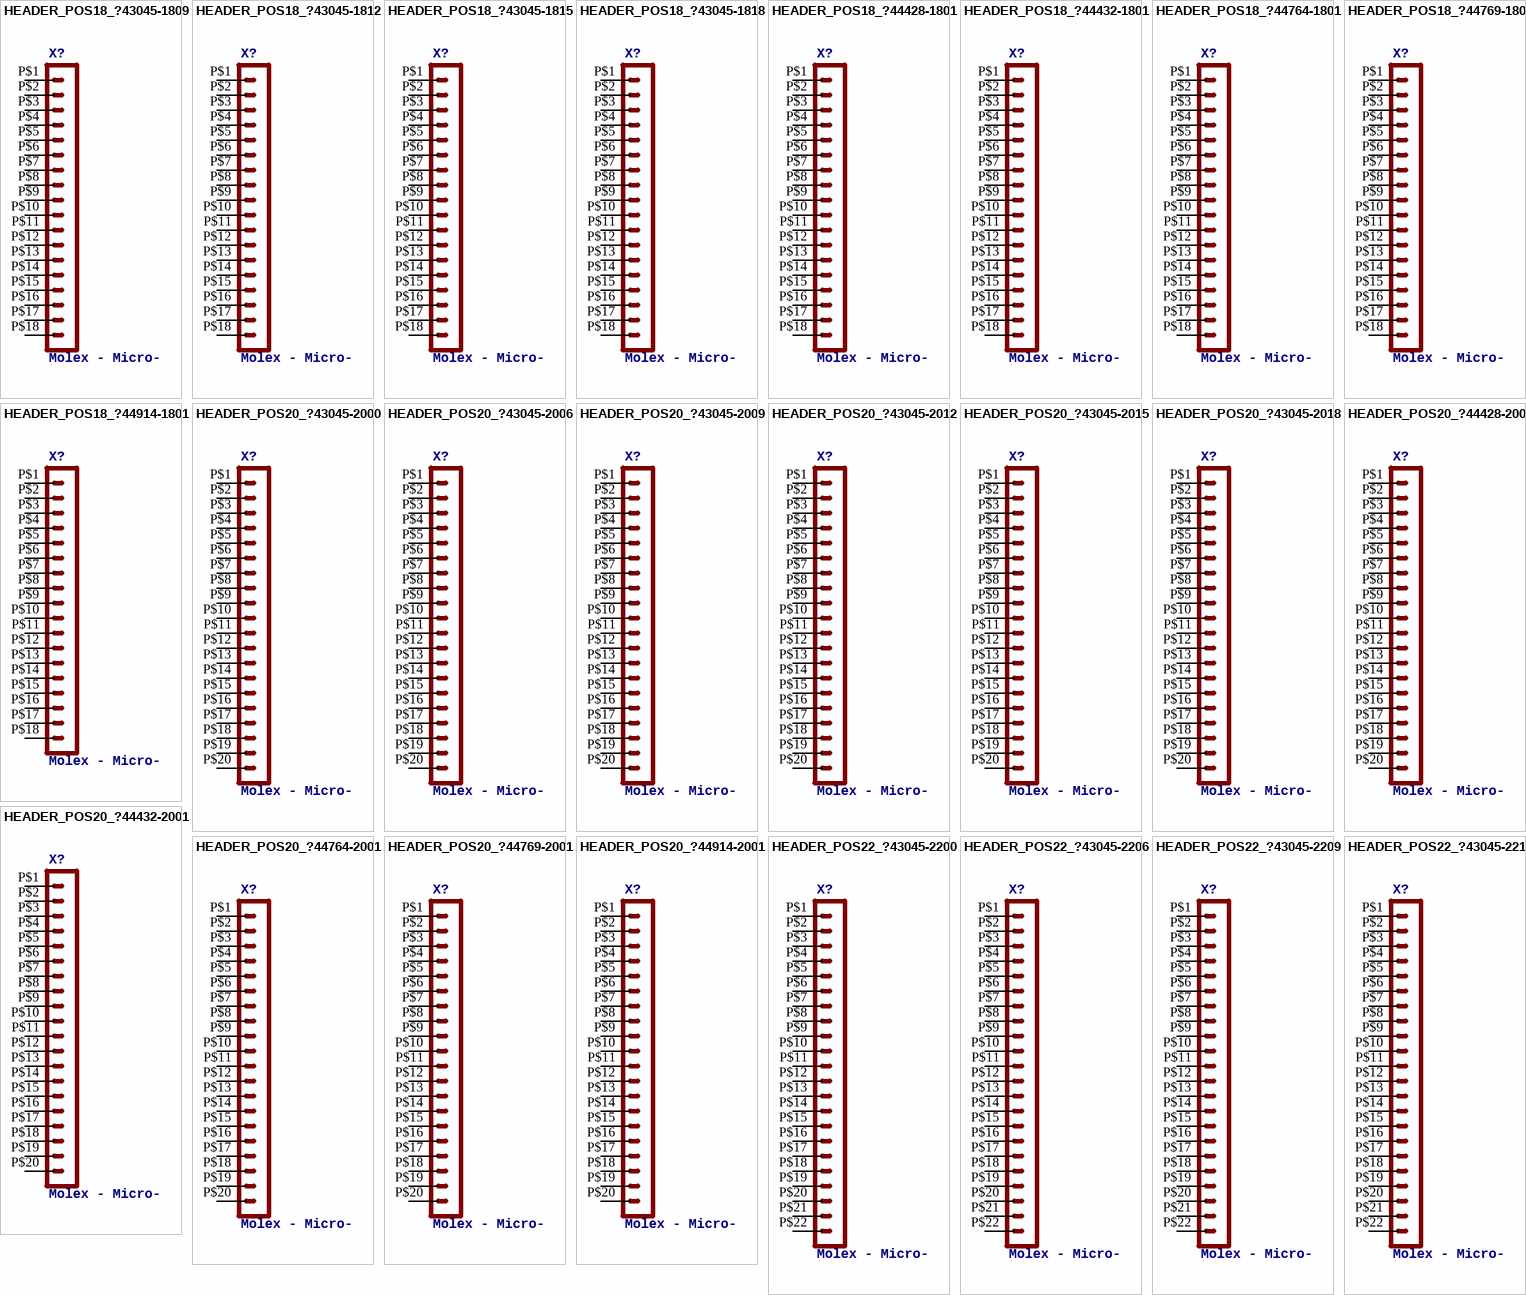
[diagram p4: symbols HEADER_POS18_?43045-1809 to HEADER_POS22_?43045-2212]

## HEADER_POS18_?43045-1809
designator X?, comment Molex - Micro-Fit 3.0 Series connector,  3.00mm (0.118") pitch header, 18 positions.
footprint 43045-1809
pins: P$1 1, P$2 2, P$3 3, P$4 4, P$5 5, P$6 6, P$7 7, P$8 8, P$9 9, P$10 10, P$11 11, P$12 12, P$13 13, P$14 14, P$15 15, P$16 16, P$17 17, P$18 18

## HEADER_POS18_?43045-1812
designator X?, comment Molex - Micro-Fit 3.0 Series connector,  3.00mm (0.118") pitch header, 18 positions.
footprint 43045-1812
pins: P$1 1, P$2 2, P$3 3, P$4 4, P$5 5, P$6 6, P$7 7, P$8 8, P$9 9, P$10 10, P$11 11, P$12 12, P$13 13, P$14 14, P$15 15, P$16 16, P$17 17, P$18 18

## HEADER_POS18_?43045-1815
designator X?, comment Molex - Micro-Fit 3.0 Series connector,  3.00mm (0.118") pitch header, 18 positions.
footprint 43045-1815
pins: P$1 1, P$2 2, P$3 3, P$4 4, P$5 5, P$6 6, P$7 7, P$8 8, P$9 9, P$10 10, P$11 11, P$12 12, P$13 13, P$14 14, P$15 15, P$16 16, P$17 17, P$18 18

## HEADER_POS18_?43045-1818
designator X?, comment Molex - Micro-Fit 3.0 Series connector,  3.00mm (0.118") pitch header, 18 positions.
footprint 43045-1818
pins: P$1 1, P$2 2, P$3 3, P$4 4, P$5 5, P$6 6, P$7 7, P$8 8, P$9 9, P$10 10, P$11 11, P$12 12, P$13 13, P$14 14, P$15 15, P$16 16, P$17 17, P$18 18

## HEADER_POS18_?44428-1801
designator X?, comment Molex - Micro-Fit 3.0 Series connector,  3.00mm (0.118") pitch header, 18 positions.
footprint 44428-1801
pins: P$1 1, P$2 2, P$3 3, P$4 4, P$5 5, P$6 6, P$7 7, P$8 8, P$9 9, P$10 10, P$11 11, P$12 12, P$13 13, P$14 14, P$15 15, P$16 16, P$17 17, P$18 18

## HEADER_POS18_?44432-1801
designator X?, comment Molex - Micro-Fit 3.0 Series connector,  3.00mm (0.118") pitch header, 18 positions.
footprint 44432-1801
pins: P$1 1, P$2 2, P$3 3, P$4 4, P$5 5, P$6 6, P$7 7, P$8 8, P$9 9, P$10 10, P$11 11, P$12 12, P$13 13, P$14 14, P$15 15, P$16 16, P$17 17, P$18 18

## HEADER_POS18_?44764-1801
designator X?, comment Molex - Micro-Fit 3.0 Series connector,  3.00mm (0.118") pitch header, 18 positions.
footprint 44764-1801
pins: P$1 1, P$2 2, P$3 3, P$4 4, P$5 5, P$6 6, P$7 7, P$8 8, P$9 9, P$10 10, P$11 11, P$12 12, P$13 13, P$14 14, P$15 15, P$16 16, P$17 17, P$18 18

## HEADER_POS18_?44769-1801
designator X?, comment Molex - Micro-Fit 3.0 Series connector,  3.00mm (0.118") pitch header, 18 positions.
footprint 44769-1801
pins: P$1 1, P$2 2, P$3 3, P$4 4, P$5 5, P$6 6, P$7 7, P$8 8, P$9 9, P$10 10, P$11 11, P$12 12, P$13 13, P$14 14, P$15 15, P$16 16, P$17 17, P$18 18

## HEADER_POS18_?44914-1801
designator X?, comment Molex - Micro-Fit 3.0 Series connector,  3.00mm (0.118") pitch header, 18 positions.
footprint 44914-1801
pins: P$1 1, P$2 2, P$3 3, P$4 4, P$5 5, P$6 6, P$7 7, P$8 8, P$9 9, P$10 10, P$11 11, P$12 12, P$13 13, P$14 14, P$15 15, P$16 16, P$17 17, P$18 18

## HEADER_POS20_?43045-2000
designator X?, comment Molex - Micro-Fit 3.0 Series connector,  3.00mm (0.118") pitch header, 20 positions.
footprint 43045-2000
pins: P$1 1, P$2 2, P$3 3, P$4 4, P$5 5, P$6 6, P$7 7, P$8 8, P$9 9, P$10 10, P$11 11, P$12 12, P$13 13, P$14 14, P$15 15, P$16 16, P$17 17, P$18 18, P$19 19, P$20 20

## HEADER_POS20_?43045-2006
designator X?, comment Molex - Micro-Fit 3.0 Series connector,  3.00mm (0.118") pitch header, 20 positions.
footprint 43045-2006
pins: P$1 1, P$2 2, P$3 3, P$4 4, P$5 5, P$6 6, P$7 7, P$8 8, P$9 9, P$10 10, P$11 11, P$12 12, P$13 13, P$14 14, P$15 15, P$16 16, P$17 17, P$18 18, P$19 19, P$20 20

## HEADER_POS20_?43045-2009
designator X?, comment Molex - Micro-Fit 3.0 Series connector,  3.00mm (0.118") pitch header, 20 positions.
footprint 43045-2009
pins: P$1 1, P$2 2, P$3 3, P$4 4, P$5 5, P$6 6, P$7 7, P$8 8, P$9 9, P$10 10, P$11 11, P$12 12, P$13 13, P$14 14, P$15 15, P$16 16, P$17 17, P$18 18, P$19 19, P$20 20

## HEADER_POS20_?43045-2012
designator X?, comment Molex - Micro-Fit 3.0 Series connector,  3.00mm (0.118") pitch header, 20 positions.
footprint 43045-2012
pins: P$1 1, P$2 2, P$3 3, P$4 4, P$5 5, P$6 6, P$7 7, P$8 8, P$9 9, P$10 10, P$11 11, P$12 12, P$13 13, P$14 14, P$15 15, P$16 16, P$17 17, P$18 18, P$19 19, P$20 20

## HEADER_POS20_?43045-2015
designator X?, comment Molex - Micro-Fit 3.0 Series connector,  3.00mm (0.118") pitch header, 20 positions.
footprint 43045-2015
pins: P$1 1, P$2 2, P$3 3, P$4 4, P$5 5, P$6 6, P$7 7, P$8 8, P$9 9, P$10 10, P$11 11, P$12 12, P$13 13, P$14 14, P$15 15, P$16 16, P$17 17, P$18 18, P$19 19, P$20 20

## HEADER_POS20_?43045-2018
designator X?, comment Molex - Micro-Fit 3.0 Series connector,  3.00mm (0.118") pitch header, 20 positions.
footprint 43045-2018
pins: P$1 1, P$2 2, P$3 3, P$4 4, P$5 5, P$6 6, P$7 7, P$8 8, P$9 9, P$10 10, P$11 11, P$12 12, P$13 13, P$14 14, P$15 15, P$16 16, P$17 17, P$18 18, P$19 19, P$20 20

## HEADER_POS20_?44428-2001
designator X?, comment Molex - Micro-Fit 3.0 Series connector,  3.00mm (0.118") pitch header, 20 positions.
footprint 44428-2001
pins: P$1 1, P$2 2, P$3 3, P$4 4, P$5 5, P$6 6, P$7 7, P$8 8, P$9 9, P$10 10, P$11 11, P$12 12, P$13 13, P$14 14, P$15 15, P$16 16, P$17 17, P$18 18, P$19 19, P$20 20

## HEADER_POS20_?44432-2001
designator X?, comment Molex - Micro-Fit 3.0 Series connector,  3.00mm (0.118") pitch header, 20 positions.
footprint 44432-2001
pins: P$1 1, P$2 2, P$3 3, P$4 4, P$5 5, P$6 6, P$7 7, P$8 8, P$9 9, P$10 10, P$11 11, P$12 12, P$13 13, P$14 14, P$15 15, P$16 16, P$17 17, P$18 18, P$19 19, P$20 20

## HEADER_POS20_?44764-2001
designator X?, comment Molex - Micro-Fit 3.0 Series connector,  3.00mm (0.118") pitch header, 20 positions.
footprint 44764-2001
pins: P$1 1, P$2 2, P$3 3, P$4 4, P$5 5, P$6 6, P$7 7, P$8 8, P$9 9, P$10 10, P$11 11, P$12 12, P$13 13, P$14 14, P$15 15, P$16 16, P$17 17, P$18 18, P$19 19, P$20 20

## HEADER_POS20_?44769-2001
designator X?, comment Molex - Micro-Fit 3.0 Series connector,  3.00mm (0.118") pitch header, 20 positions.
footprint 44769-2001
pins: P$1 1, P$2 2, P$3 3, P$4 4, P$5 5, P$6 6, P$7 7, P$8 8, P$9 9, P$10 10, P$11 11, P$12 12, P$13 13, P$14 14, P$15 15, P$16 16, P$17 17, P$18 18, P$19 19, P$20 20

## HEADER_POS20_?44914-2001
designator X?, comment Molex - Micro-Fit 3.0 Series connector,  3.00mm (0.118") pitch header, 20 positions.
footprint 44914-2001
pins: P$1 1, P$2 2, P$3 3, P$4 4, P$5 5, P$6 6, P$7 7, P$8 8, P$9 9, P$10 10, P$11 11, P$12 12, P$13 13, P$14 14, P$15 15, P$16 16, P$17 17, P$18 18, P$19 19, P$20 20

## HEADER_POS22_?43045-2200
designator X?, comment Molex - Micro-Fit 3.0 Series connector,  3.00mm (0.118") pitch header, 22 positions.
footprint 43045-2200
pins: P$1 1, P$2 2, P$3 3, P$4 4, P$5 5, P$6 6, P$7 7, P$8 8, P$9 9, P$10 10, P$11 11, P$12 12, P$13 13, P$14 14, P$15 15, P$16 16, P$17 17, P$18 18, P$19 19, P$20 20, P$21 21, P$22 22

## HEADER_POS22_?43045-2206
designator X?, comment Molex - Micro-Fit 3.0 Series connector,  3.00mm (0.118") pitch header, 22 positions.
footprint 43045-2206
pins: P$1 1, P$2 2, P$3 3, P$4 4, P$5 5, P$6 6, P$7 7, P$8 8, P$9 9, P$10 10, P$11 11, P$12 12, P$13 13, P$14 14, P$15 15, P$16 16, P$17 17, P$18 18, P$19 19, P$20 20, P$21 21, P$22 22

## HEADER_POS22_?43045-2209
designator X?, comment Molex - Micro-Fit 3.0 Series connector,  3.00mm (0.118") pitch header, 22 positions.
footprint 43045-2209
pins: P$1 1, P$2 2, P$3 3, P$4 4, P$5 5, P$6 6, P$7 7, P$8 8, P$9 9, P$10 10, P$11 11, P$12 12, P$13 13, P$14 14, P$15 15, P$16 16, P$17 17, P$18 18, P$19 19, P$20 20, P$21 21, P$22 22

## HEADER_POS22_?43045-2212
designator X?, comment Molex - Micro-Fit 3.0 Series connector,  3.00mm (0.118") pitch header, 22 positions.
footprint 43045-2212
pins: P$1 1, P$2 2, P$3 3, P$4 4, P$5 5, P$6 6, P$7 7, P$8 8, P$9 9, P$10 10, P$11 11, P$12 12, P$13 13, P$14 14, P$15 15, P$16 16, P$17 17, P$18 18, P$19 19, P$20 20, P$21 21, P$22 22

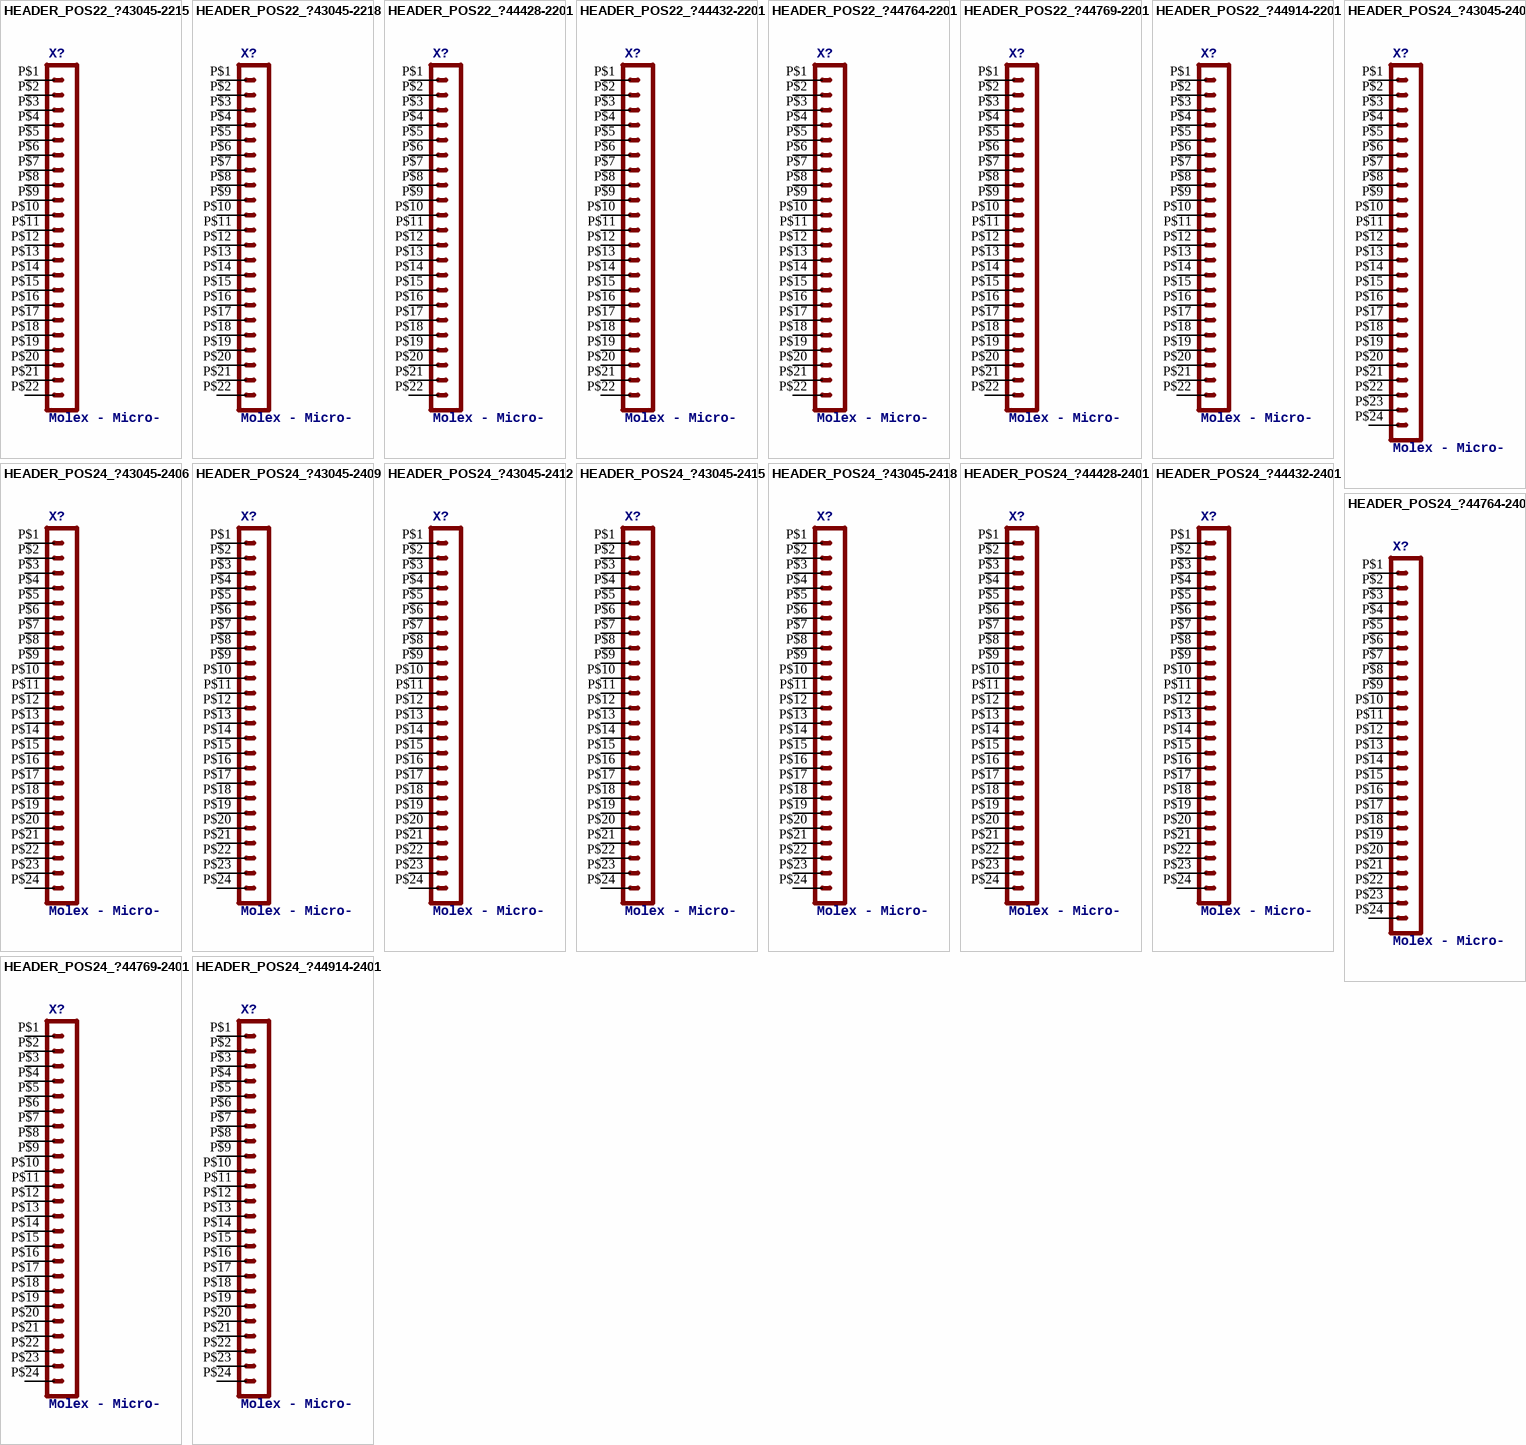
[diagram p5: symbols HEADER_POS22_?43045-2215 to HEADER_POS24_?44914-2401]

## HEADER_POS22_?43045-2215
designator X?, comment Molex - Micro-Fit 3.0 Series connector,  3.00mm (0.118") pitch header, 22 positions.
footprint 43045-2215
pins: P$1 1, P$2 2, P$3 3, P$4 4, P$5 5, P$6 6, P$7 7, P$8 8, P$9 9, P$10 10, P$11 11, P$12 12, P$13 13, P$14 14, P$15 15, P$16 16, P$17 17, P$18 18, P$19 19, P$20 20, P$21 21, P$22 22

## HEADER_POS22_?43045-2218
designator X?, comment Molex - Micro-Fit 3.0 Series connector,  3.00mm (0.118") pitch header, 22 positions.
footprint 43045-2218
pins: P$1 1, P$2 2, P$3 3, P$4 4, P$5 5, P$6 6, P$7 7, P$8 8, P$9 9, P$10 10, P$11 11, P$12 12, P$13 13, P$14 14, P$15 15, P$16 16, P$17 17, P$18 18, P$19 19, P$20 20, P$21 21, P$22 22

## HEADER_POS22_?44428-2201
designator X?, comment Molex - Micro-Fit 3.0 Series connector,  3.00mm (0.118") pitch header, 22 positions.
footprint 44428-2201
pins: P$1 1, P$2 2, P$3 3, P$4 4, P$5 5, P$6 6, P$7 7, P$8 8, P$9 9, P$10 10, P$11 11, P$12 12, P$13 13, P$14 14, P$15 15, P$16 16, P$17 17, P$18 18, P$19 19, P$20 20, P$21 21, P$22 22

## HEADER_POS22_?44432-2201
designator X?, comment Molex - Micro-Fit 3.0 Series connector,  3.00mm (0.118") pitch header, 22 positions.
footprint 44432-2201
pins: P$1 1, P$2 2, P$3 3, P$4 4, P$5 5, P$6 6, P$7 7, P$8 8, P$9 9, P$10 10, P$11 11, P$12 12, P$13 13, P$14 14, P$15 15, P$16 16, P$17 17, P$18 18, P$19 19, P$20 20, P$21 21, P$22 22

## HEADER_POS22_?44764-2201
designator X?, comment Molex - Micro-Fit 3.0 Series connector,  3.00mm (0.118") pitch header, 22 positions.
footprint 44764-2201
pins: P$1 1, P$2 2, P$3 3, P$4 4, P$5 5, P$6 6, P$7 7, P$8 8, P$9 9, P$10 10, P$11 11, P$12 12, P$13 13, P$14 14, P$15 15, P$16 16, P$17 17, P$18 18, P$19 19, P$20 20, P$21 21, P$22 22

## HEADER_POS22_?44769-2201
designator X?, comment Molex - Micro-Fit 3.0 Series connector,  3.00mm (0.118") pitch header, 22 positions.
footprint 44769-2201
pins: P$1 1, P$2 2, P$3 3, P$4 4, P$5 5, P$6 6, P$7 7, P$8 8, P$9 9, P$10 10, P$11 11, P$12 12, P$13 13, P$14 14, P$15 15, P$16 16, P$17 17, P$18 18, P$19 19, P$20 20, P$21 21, P$22 22

## HEADER_POS22_?44914-2201
designator X?, comment Molex - Micro-Fit 3.0 Series connector,  3.00mm (0.118") pitch header, 22 positions.
footprint 44914-2201
pins: P$1 1, P$2 2, P$3 3, P$4 4, P$5 5, P$6 6, P$7 7, P$8 8, P$9 9, P$10 10, P$11 11, P$12 12, P$13 13, P$14 14, P$15 15, P$16 16, P$17 17, P$18 18, P$19 19, P$20 20, P$21 21, P$22 22

## HEADER_POS24_?43045-2400
designator X?, comment Molex - Micro-Fit 3.0 Series connector,  3.00mm (0.118") pitch header, 24 positions.
footprint 43045-2400
pins: P$1 1, P$2 2, P$3 3, P$4 4, P$5 5, P$6 6, P$7 7, P$8 8, P$9 9, P$10 10, P$11 11, P$12 12, P$13 13, P$14 14, P$15 15, P$16 16, P$17 17, P$18 18, P$19 19, P$20 20, P$21 21, P$22 22, P$23 23, P$24 24

## HEADER_POS24_?43045-2406
designator X?, comment Molex - Micro-Fit 3.0 Series connector,  3.00mm (0.118") pitch header, 24 positions.
footprint 43045-2406
pins: P$1 1, P$2 2, P$3 3, P$4 4, P$5 5, P$6 6, P$7 7, P$8 8, P$9 9, P$10 10, P$11 11, P$12 12, P$13 13, P$14 14, P$15 15, P$16 16, P$17 17, P$18 18, P$19 19, P$20 20, P$21 21, P$22 22, P$23 23, P$24 24

## HEADER_POS24_?43045-2409
designator X?, comment Molex - Micro-Fit 3.0 Series connector,  3.00mm (0.118") pitch header, 24 positions.
footprint 43045-2409
pins: P$1 1, P$2 2, P$3 3, P$4 4, P$5 5, P$6 6, P$7 7, P$8 8, P$9 9, P$10 10, P$11 11, P$12 12, P$13 13, P$14 14, P$15 15, P$16 16, P$17 17, P$18 18, P$19 19, P$20 20, P$21 21, P$22 22, P$23 23, P$24 24

## HEADER_POS24_?43045-2412
designator X?, comment Molex - Micro-Fit 3.0 Series connector,  3.00mm (0.118") pitch header, 24 positions.
footprint 43045-2412
pins: P$1 1, P$2 2, P$3 3, P$4 4, P$5 5, P$6 6, P$7 7, P$8 8, P$9 9, P$10 10, P$11 11, P$12 12, P$13 13, P$14 14, P$15 15, P$16 16, P$17 17, P$18 18, P$19 19, P$20 20, P$21 21, P$22 22, P$23 23, P$24 24

## HEADER_POS24_?43045-2415
designator X?, comment Molex - Micro-Fit 3.0 Series connector,  3.00mm (0.118") pitch header, 24 positions.
footprint 43045-2415
pins: P$1 1, P$2 2, P$3 3, P$4 4, P$5 5, P$6 6, P$7 7, P$8 8, P$9 9, P$10 10, P$11 11, P$12 12, P$13 13, P$14 14, P$15 15, P$16 16, P$17 17, P$18 18, P$19 19, P$20 20, P$21 21, P$22 22, P$23 23, P$24 24

## HEADER_POS24_?43045-2418
designator X?, comment Molex - Micro-Fit 3.0 Series connector,  3.00mm (0.118") pitch header, 24 positions.
footprint 43045-2418
pins: P$1 1, P$2 2, P$3 3, P$4 4, P$5 5, P$6 6, P$7 7, P$8 8, P$9 9, P$10 10, P$11 11, P$12 12, P$13 13, P$14 14, P$15 15, P$16 16, P$17 17, P$18 18, P$19 19, P$20 20, P$21 21, P$22 22, P$23 23, P$24 24

## HEADER_POS24_?44428-2401
designator X?, comment Molex - Micro-Fit 3.0 Series connector,  3.00mm (0.118") pitch header, 24 positions.
footprint 44428-2401
pins: P$1 1, P$2 2, P$3 3, P$4 4, P$5 5, P$6 6, P$7 7, P$8 8, P$9 9, P$10 10, P$11 11, P$12 12, P$13 13, P$14 14, P$15 15, P$16 16, P$17 17, P$18 18, P$19 19, P$20 20, P$21 21, P$22 22, P$23 23, P$24 24

## HEADER_POS24_?44432-2401
designator X?, comment Molex - Micro-Fit 3.0 Series connector,  3.00mm (0.118") pitch header, 24 positions.
footprint 44432-2401
pins: P$1 1, P$2 2, P$3 3, P$4 4, P$5 5, P$6 6, P$7 7, P$8 8, P$9 9, P$10 10, P$11 11, P$12 12, P$13 13, P$14 14, P$15 15, P$16 16, P$17 17, P$18 18, P$19 19, P$20 20, P$21 21, P$22 22, P$23 23, P$24 24

## HEADER_POS24_?44764-2401
designator X?, comment Molex - Micro-Fit 3.0 Series connector,  3.00mm (0.118") pitch header, 24 positions.
footprint 44764-2401
pins: P$1 1, P$2 2, P$3 3, P$4 4, P$5 5, P$6 6, P$7 7, P$8 8, P$9 9, P$10 10, P$11 11, P$12 12, P$13 13, P$14 14, P$15 15, P$16 16, P$17 17, P$18 18, P$19 19, P$20 20, P$21 21, P$22 22, P$23 23, P$24 24

## HEADER_POS24_?44769-2401
designator X?, comment Molex - Micro-Fit 3.0 Series connector,  3.00mm (0.118") pitch header, 24 positions.
footprint 44769-2401
pins: P$1 1, P$2 2, P$3 3, P$4 4, P$5 5, P$6 6, P$7 7, P$8 8, P$9 9, P$10 10, P$11 11, P$12 12, P$13 13, P$14 14, P$15 15, P$16 16, P$17 17, P$18 18, P$19 19, P$20 20, P$21 21, P$22 22, P$23 23, P$24 24

## HEADER_POS24_?44914-2401
designator X?, comment Molex - Micro-Fit 3.0 Series connector,  3.00mm (0.118") pitch header, 24 positions.
footprint 44914-2401
pins: P$1 1, P$2 2, P$3 3, P$4 4, P$5 5, P$6 6, P$7 7, P$8 8, P$9 9, P$10 10, P$11 11, P$12 12, P$13 13, P$14 14, P$15 15, P$16 16, P$17 17, P$18 18, P$19 19, P$20 20, P$21 21, P$22 22, P$23 23, P$24 24